# Altium schematic symbol library jclib.SchLib: 247 symbols (part 1 of 2)
Pins are listed as number, name and electrical type; pins without a type are passive.

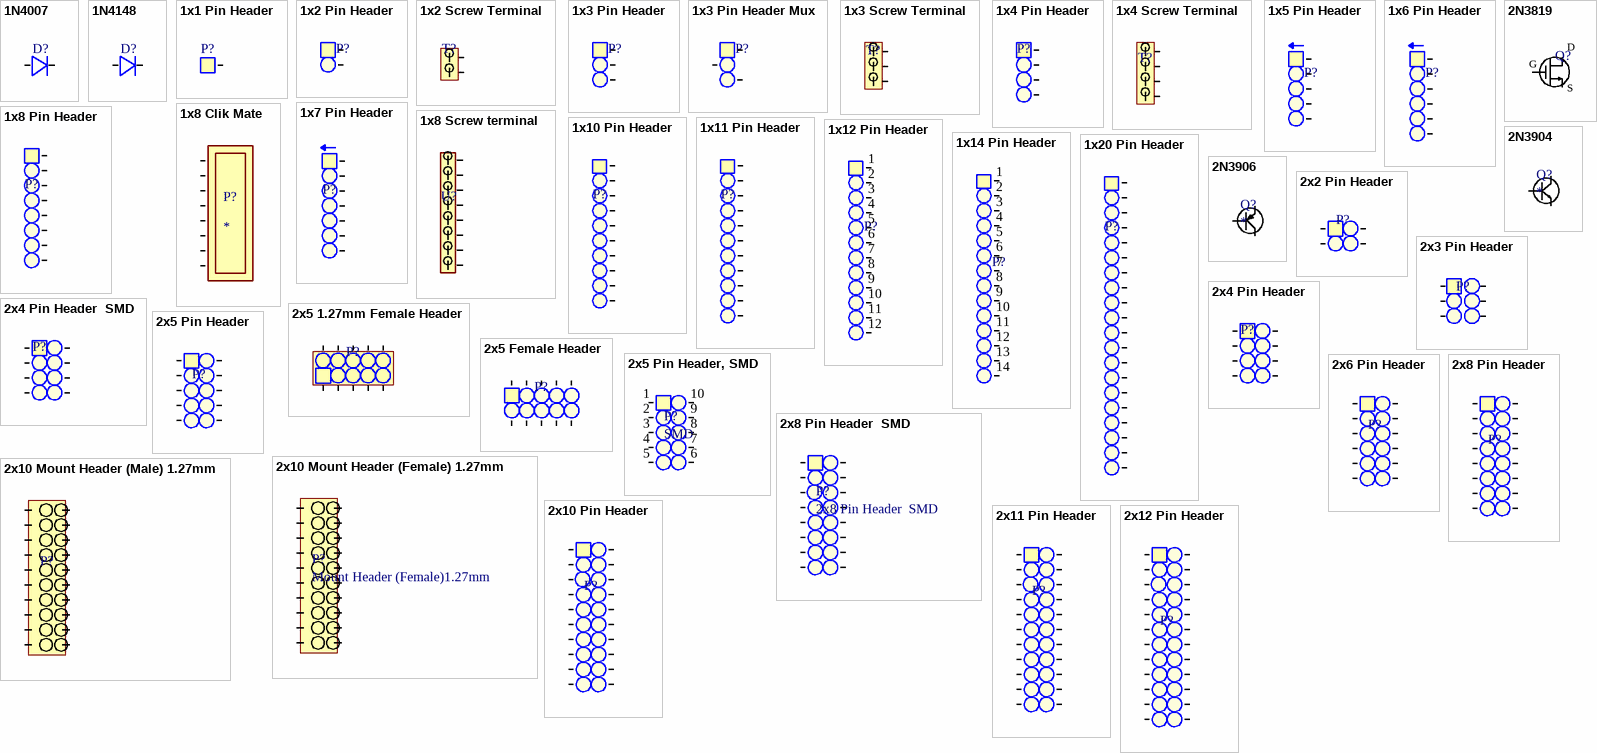
[diagram p0: symbols 1N4007 to 2x12 Pin Header]

## 1N4007
designator D?  (value not drawn)
Axial Lead Standard / Recovery Rectifier; Supplier: *; Order number: *
footprint 1N4007
pins: 1, 2

## 1N4148
designator D?  (value not drawn)
Axial Lead Standard / Recovery Rectifier; Supplier: *; Order number: *
footprint 1N4148
footprint SOD123
pins: 1, 2

## 1x1 Pin Header
designator P?  (value not drawn)
2.54 mm; Value: 1x3 Pin Header
footprint 1x1 (Diameter 2mm, Hole 1mm)
pins: 1

## 1x2 Pin Header
designator P?  (value not drawn)
2.54 mm, TH; Value: 1x2 Pin Header
footprint padtwo_L (Pad Diameter 2 mm, Hole  0.3 mm, Pitch 2.54 mm)
footprint SMD_PAD (1x2 2.54 mm pitch)
footprint 1x2 Bent (Diameter 2mm, Hole 1mm)
pins: 1, 2

## 1x2 Screw Terminal
designator T?, comment Screw Terminal  (value not drawn)
Value: Srew Terminal; Supplier: *; Order number: *
footprint ScrewTerminal
pins: 1, 2

## 1x3 Pin Header
designator P?  (value not drawn)
2.54 mm; Value: 1x3 Pin Header
footprint padThree_L (Pad Diameter 2 mm, Hole  0.3 mm, Pitch 2.54 mm)
footprint 1x3_horizontal (Pad Diameter 2 mm, Hole  0.3 mm, Pitch 2.54 mm)
footprint 1x3_SMD_horizontal_ (SMD Pitch 2.54 mm)
pins: 1, 2, 3

## 1x3 Pin Header Mux
designator P?  (value not drawn)
2.54 mm; Value: 1x3 Pin Header
footprint padThree_L (Pad Diameter 2 mm, Hole  0.3 mm, Pitch 2.54 mm)
footprint 1x3_horizontal (Pad Diameter 2 mm, Hole  0.3 mm, Pitch 2.54 mm)
footprint 1x3_SMD_horizontal_ (SMD Pitch 2.54 mm)
pins: 1, 2, 3

## 1x3 Screw Terminal
designator T?, comment Screw Terminal  (value not drawn)
Value: Screw Terminal; Supplier: *; Order number: *
footprint 1x3 ScrewTerminal
pins: 1, 2, 3

## 1x4 Pin Header
designator P?, comment 4x1 Pin Header  (value not drawn)
2.54 mm; Value: 4x1 Pin Header
footprint padFour_L (Pad Diameter 2 mm, Hole  0.3 mm, Pitch 2.54 mm)
footprint 1x4 Bent Pin Header (1x4 Bent Pin Header SMD, 2.54 mm)
footprint 1x4_pcb_side_connec
pins: 1, 2, 3, 4

## 1x4 Screw Terminal
designator T?, comment Screw Terminal  (value not drawn)
Value: Srew Terminal; Supplier: *; Order number: *
footprint 1x4 ScrewTerminal
pins: 1, 2, 3, 4

## 1x5 Pin Header
designator P?  (value not drawn)
2.54 mm; Value: 1x5 Pin Header
footprint padFive_L (Pad Diameter 2 mm, Hole  0.3 mm, Pitch 2.54 mm)
footprint padFive_L_H (Pad Diameter 2 mm, Hole  0.3 mm, Pitch 2.54 mm)
footprint 1x5_pcb_side_connec
pins: 1, 2, 3, 4, 5

## 1x6 Pin Header
designator P?  (value not drawn)
2.54 mm; Value: 1x3 Pin Header
footprint 1x6 Pin Header SMD (1x6 Pin Header SMD, 2.54 mm)
footprint 1x6 Pin Header (1x6 Pin Header 2.54 mm)
footprint 1x6 Pin Header H (1x6 Pin Header 2.54 mm)
footprint 1x6_pcb_side_connect
pins: 1, 2, 3, 4, 5, 6

## 1x7 Pin Header
designator P?  (value not drawn)
2.54 mm; Value: 1x8 Pin Header
footprint 1x7 Pin Header H
footprint 1x7 Pin Header
pins: 1, 2, 3, 4, 5, 6, 7

## 1x8 Clik Mate
designator P?
CLIK-Mate™ 1.50 mm Tuning Fork Design Wire-to-Board Connectors; Order number: WM14466CT-ND / WM13354-ND; Supplier: Digikey
footprint click_mate_8pos
pins: 1, 2, 3, 4, 5, 6, 7, 8

## 1x8 Pin Header
designator P?  (value not drawn)
2.54 mm; Value: 1x8 Pin Header
footprint 1x8 Pin HEader
pins: 1, 2, 3, 4, 5, 6, 7, 8

## 1x8 Screw terminal
designator U?  (value not drawn)
Order number: A98338-ND; Supplier: Digikey
footprint screw_term_8_pos
pins: 1, 2, 3, 4, 5, 6, 7, 8

## 1x10 Pin Header
designator P?  (value not drawn)
2.54 mm; Value: 1x8 Pin Header
footprint 1x10 PIN HEADER (1x10 Pin header 2.54 mm pitch)
footprint 1x10_pcb_side_connect
pins: 1, 2, 3, 4, 5, 6, 7, 8, 9, 10

## 1x11 Pin Header
designator P?  (value not drawn)
2.54 mm; Value: 1x8 Pin Header
footprint 1x11 Pin Header (2.54 mm)
pins: 1, 2, 3, 4, 5, 6, 7, 8, 9, 10, 11

## 1x12 Pin Header
designator P?  (value not drawn)
1x12 Pin Header, 2.54 mm; Value: 1x12 Pin Header, 2.54 mm
footprint 1x12 Pin Header (1x12 Pin Header 2.54 mm)
pins: 1, 2, 3, 4, 5, 6, 7, 8, 9, 10, 11, 12

## 1x14 Pin Header
designator P?  (value not drawn)
1x14 Pin Header, 2.54 mm; Value: 1x14 Pin Header, 2.54 mm
footprint 1x14Pin Header (1x14 Pin Header 2.54 mm)
footprint 1x14Pin Header U (1x14 Pin Header 2.54 mm)
pins: 1, 2, 3, 4, 5, 6, 7, 8, 9, 10, 11, 12, 13, 14

## 1x20 Pin Header
designator P?  (value not drawn)
Milled header, 2.54 mm; Value: 1x2 Pin Header, milled
footprint 1x20_header_milled (2.54 mm)
pins: 1, 2, 3, 4, 5, 6, 7, 8, 9, 10, 11, 12, 13, 14, 15, 16, 17, 18, 19, 20

## 2N3819
designator Q?  (value not drawn)
Value: N Channel MOSFET; Supplier: *; Order number: *
footprint TO-92 (Triangle, 2.54 mm)
pins: 1 S, 2 G, 3 D

## 2N3904
designator Q?
NPN-transistor; Order number: 1700648; Value: Transistor; Supplier: Farnell
footprint SOT-23
footprint TO-92 (Triangle, 2.54 mm)
pins: 1 E, 2 B, 3 C

## 2N3906
designator Q?
PNP-transistor; Order number: 1574372; Value: Transistor; Supplier: Farnell
footprint TO-92 (Triangle, 2.54 mm)
pins: 1 E, 2 B, 3 C

## 2x2 Pin Header
designator P?  (value not drawn)
Value: 2x2 Pin Header, 2.54mm
footprint 2x2 PH (2.54 mm)
pins: 1, 2, 3, 4

## 2x3 Pin Header
designator P?  (value not drawn)
Value: 2x3 Pin Header, 2.54mm
footprint 2x3 PH (2x3 Pin Header, 2.54 pitch)
pins: 1, 2, 3, 4, 5, 6

## 2x4 Pin Header
designator P?  (value not drawn)
2.54mm,; Value: 2x8 Pin Header, 2.54mm, SMD
footprint 2X4 PH (2x4 Pin Header 2.54 mm)
pins: 1, 2, 3, 4, 5, 6, 7, 8

## 2x4 Pin Header  SMD
designator P?  (value not drawn)
2.54mm, SMD; Value: 2x8 Pin Header, 2.54mm, SMD
footprint 2X4_SMD_PH_2.54 (2x4 Pin Header 2.54 mm)
pins: 1, 2, 3, 4, 5, 6, 7, 8

## 2x5 1.27mm Female Header
designator P?
1.27mm, PH; Value: 2x5 Pin Header, 2.54mm, Th; Digikey: FTSH-105-01-L-DV-K
footprint FTSH-105-01-L-DV-K (1.27 Male Header)
pins: 1, 2, 3, 4, 5, 6, 7, 8, 9, 10

## 2x5 Female Header
designator P?
2.54mm, PH; Value: 2x5 Pin Header, 2.54mm, Th; Digikey: M20-7920542R
footprint M20-7920542R (Female Pin header)
pins: 1, 2, 3, 4, 5, 6, 7, 8, 9, 10

## 2x5 Pin Header
designator P?
2.54mm, PH; Value: 2x5 Pin Header, 2.54mm, Th
footprint 2x5 Pin Header (2.54 mm)
pins: 1, 2, 3, 4, 5, 6, 7, 8, 9, 10

## 2x5 Pin Header, SMD
designator P?, comment SMD
2.54mm, SMD; Value: 2x5 Pin Header, 2.54mm, SMD; Farnell: 2356242
footprint 2X5_SMD_PH_1.27 (2x5 Pin Header 2.54 mm)
footprint 2X5_SMD_PH_2.54 (2x5 Pin Header 2.54 mm)
pins: 1, 2, 3, 4, 5, 6, 7, 8, 9, 10

## 2x6 Pin Header
designator P?  (value not drawn)
2.54 mm; Value: 1x8 Pin Header
footprint 2x6 Pin Header (2x6 Pin Header 2.54 mm)
pins: 1, 2, 3, 4, 5, 6, 7, 8, 9, 10, 11, 12

## 2x8 Pin Header
designator P?  (value not drawn)
2.54 mm; Value: 1x8 Pin Header
footprint 2x8 Pin Header
pins: 1, 2, 3, 4, 5, 6, 7, 8, 9, 10, 11, 12, 13, 14, 15, 16

## 2x8 Pin Header  SMD
designator P?
2.54mm, SMD; Value: 2x8 Pin Header, 2.54mm, SMD; Farnell: 2356242
footprint 2X8_SMD_PH_2.54 (2x8Pin Header 2.54 mm)
pins: 1, 2, 3, 4, 5, 6, 7, 8, 9, 10, 11, 12, 13, 14, 15, 16

## 2x10 Mount Header (Female) 1.27mm
designator P?, comment Mount Header (Female)1.27mm
2x10 Mount Header (Female); Value: 2x10 Mount Header, 1.27mm; Farnell: 1099539
footprint M50-4901045
pins: 1, 2, 3, 4, 5, 6, 7, 8, 9, 10, 11, 12, 13, 14, 15, 16, 17, 18, 19, 20

## 2x10 Mount Header (Male) 1.27mm
designator P?, comment Mount Header (Male) 1.27mm  (value not drawn)
2x10 Mount Header (Male); Value: 2x10 Mount Header, 1.27mm; Farnell: 1099531
footprint M50-4301045 (1.27MM SMD AU 20POS)
pins: 1, 2, 3, 4, 5, 6, 7, 8, 9, 10, 11, 12, 13, 14, 15, 16, 17, 18, 19, 20

## 2x10 Pin Header
designator P?  (value not drawn)
2.54 mm; Value: 1x10 Pin Header
footprint 2x10 Pin Header (2.54 mm)
footprint 2x10 Pin Header Bottom connect (2.54 mm)
footprint 2x10 Pin Header Connected (2.54 mm)
pins: 1, 2, 3, 4, 5, 6, 7, 8, 9, 10, 11, 12, 13, 14, 15, 16, 17, 18, 19, 20

## 2x11 Pin Header
designator P?  (value not drawn)
2.54 mm; Value: 1x11 Pin Header
footprint 2x11 Pin Header (2.54 mm)
pins: 1, 2, 3, 4, 5, 6, 7, 8, 9, 10, 11, 12, 13, 14, 15, 16, 17, 18, 19, 20, 21, 22

## 2x12 Pin Header
designator P?  (value not drawn)
2.54 mm; Value: 1x11 Pin Header
footprint 2x12 Pin Header Bottom Pad (2.54 mm)
footprint 2x12 Pin Header Bottom Pad connected (2.54 mm)
footprint 2x12 Pin Header Connected (2.54 mm)
pins: 1, 2, 3, 4, 5, 6, 7, 8, 9, 10, 11, 12, 13, 14, 15, 16, 17, 18, 19, 20, 21, 22, 23, 24

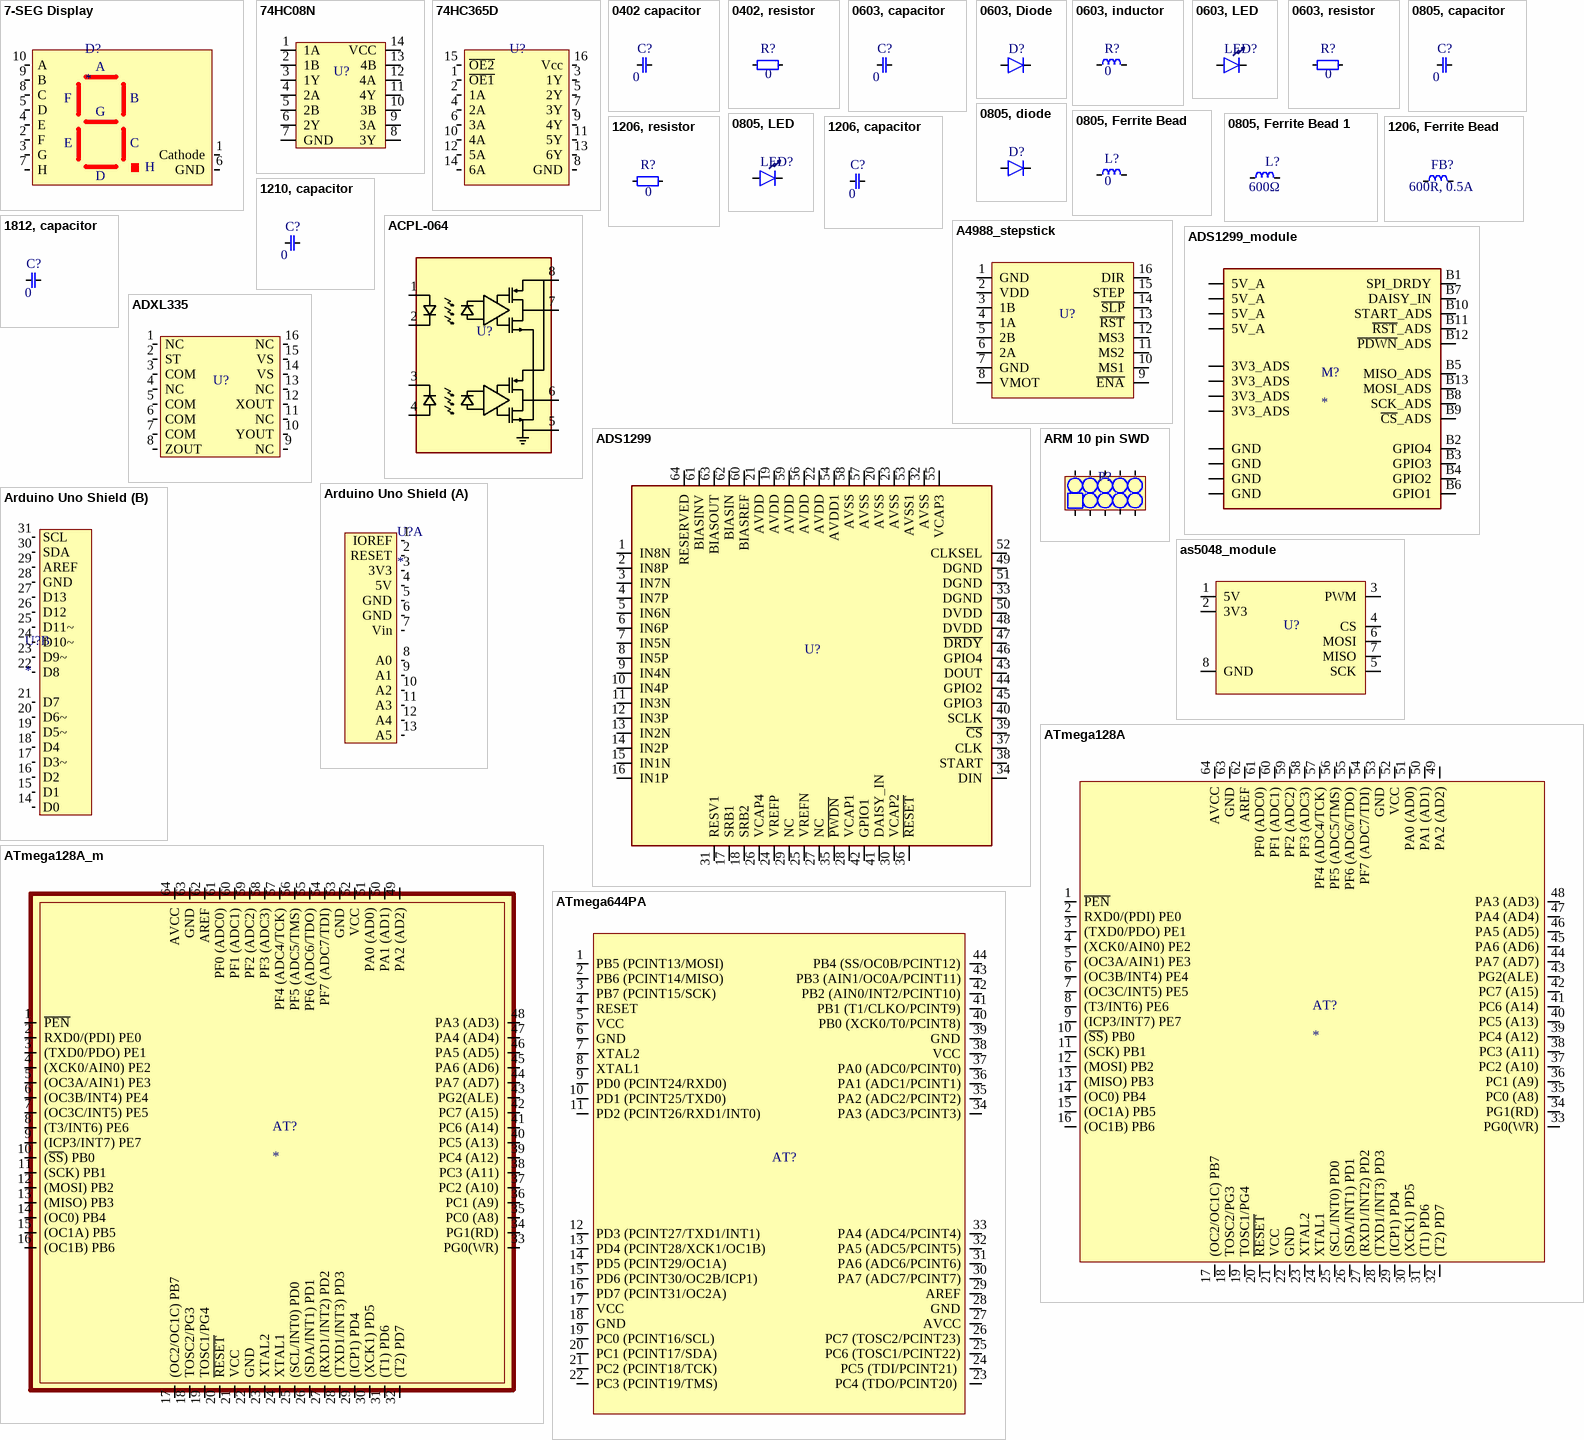
[diagram p1: symbols 7-SEG Display to ATmega644PA]

## 7-SEG Display
designator D?
7-SEG Display, 2.54 mm; ELFA: 175-50-700; Value: 7-SEG Display
footprint 7SEG (2.54mm)
pins: 1 Cathode, 2 F, 3 G, 4 E, 5 D, 6 GND, 7 H, 8 C, 9 B, 10 A

## 74HC08N
designator U?  (value not drawn)
Quad 2-input AND gate
footprint DIP14
pins: 1 1A, 2 1B, 3 1Y, 4 2A, 5 2B, 6 2Y, 7 GND, 8 3Y, 9 3A, 10 3B, 11 4Y, 12 4A, 13 4B, 14 VCC

## 74HC365D
designator U?  (value not drawn)
74HC365D; Value: Hex Buffer; ELFA: 173-90-487
footprint SOIC16
pins: 1 ~{OE1}, 2 1A, 3 1Y, 4 2A, 5 2Y, 6 3A, 7 3Y, 8 GND, 9 4Y, 10 4A, 11 5Y, 12 5A, 13 6Y, 14 6A, 15 ~{OE2}, 16 Vcc

## 0402 capacitor
designator C?  value 0  (hidden comment: *)
footprint 0402 CAP
pins: 1, 2

## 0402, resistor
designator R?  value 0
footprint 0402 res
pins: 1, 2

## 0603, capacitor
designator C?  value 0  (hidden comment: *)
Order number: *
footprint 0603 cap
pins: 0, 1

## 0603, Diode
designator D?  (value not drawn)
footprint 0603 Diode
pins: 0 Cathode, 1

## 0603, inductor
designator R?  value 0
footprint 0603
pins: 0, 1

## 0603, LED
designator LED?
footprint 0603 LED
pins: 0 Cathode, 1

## 0603, resistor
designator R?  value 0
footprint 0603
pins: 0, 1

## 0805, capacitor
designator C?  value 0  (hidden comment: *)
footprint 0805, cap
pins: 0, 1

## 0805, diode
designator D?  (value not drawn)
footprint 0805 diode
pins: 0 Cathode, 1

## 0805, Ferrite Bead
designator L?  value 0  (hidden comment: *)
footprint 0805
pins: 0, 1

## 0805, Ferrite Bead 1
designator L?  value 600Ω  (hidden comment: *)
600 ohm, 500 mA, 0.2 ohm DC
footprint 0805
pins: 0, 1

## 0805, LED
designator LED?  (value not drawn)
Value: 0805 LED
footprint 0805_led
pins: 0 Cathode, 1

## 1206, capacitor
designator C?  value 0  (hidden comment: *)
footprint 1206, capasitor (Generic 1206)
pins: 0, 1

## 1206, Ferrite Bead
designator FB?  value 600R, 0.5A  (hidden comment: *)
Ferrite bead, 600 ohm, 1206, 500 mA, 0.3 ohm, ± 25%; Farnell: 1800370
footprint 1206 (Generic 1206)
pins: 0, 1

## 1206, resistor
designator R?  value 0  (hidden comment: *)
Resistor
footprint 1206 (Generic 1206)
pins: 0, 1

## 1210, capacitor
designator C?  value 0  (hidden comment: *)
Order number: 587-1965-1-ND; Supplier: Digikey
footprint 1210, cap
pins: 0, 1

## 1812, capacitor
designator C?  value 0  (hidden comment: *)
footprint 1812, cap
pins: 0, 1

## A4988_stepstick
designator U?  (value not drawn)
footprint A4988_stepstick
pins: 1 GND, 2 VDD, 3 1B, 4 1A, 5 2B, 6 2A, 7 GND, 8 VMOT, 9 ~{ENA}, 10 MS1, 11 MS2, 12 MS3, 13 ~{RST}, 14 ~{SLP}, 15 STEP, 16 DIR

## ACPL-064
designator U?  (value not drawn)
Optocouplers, High-speed low power; Value: Optocoupler; Order number: *; Suplier: *
footprint SOIC8 (SOIC, 8-Leads, Body 4,90x3,90mm, Pitch 1,27mm, IPC Medium Density)
pins: 1, 2, 3, 4, 5, 6, 7, 8

## ADS1299
designator U?  (value not drawn)
24-Bit, Analog-to-Digital Converter for EEG and / Biopotential Measurements
footprint TQFP64_05MM_P (TSQFP, 64-Leads, Body 10,20x10,20mm, Pitch 0,50mm, IPC Medium Density)
pins: 1 IN8N, 2 IN8P, 3 IN7N, 4 IN7P, 5 IN6N, 6 IN6P, 7 IN5N, 8 IN5P, 9 IN4N, 10 IN4P, 11 IN3N, 12 IN3P, 13 IN2N, 14 IN2P, 15 IN1N, 16 IN1P, 17 SRB1, 18 SRB2, 19 AVDD, 20 AVSS, 21 AVDD, 22 AVDD, 23 AVSS, 24 VREFP, 25 VREFN, 26 VCAP4, 27 NC, 28 VCAP1, 29 NC, 30 VCAP2, 31 RESV1, 32 AVSS, 33 DGND, 34 DIN, 35 ~{PWDN}, 36 ~{RESET}, 37 CLK, 38 START, 39 ~{CS}, 40 SCLK, 41 DAISY_IN, 42 GPIO1, 43 DOUT, 44 GPIO2, 45 GPIO3, 46 GPIO4, 47 ~{DRDY}, 48 DVDD, 49 DGND, 50 DVDD, 51 DGND, 52 CLKSEL, 53 AVSS1, 54 AVDD1, 55 VCAP3, 56 AVDD, 57 AVSS, 58 AVSS, 59 AVDD, 60 BIASREF, 61 BIASINV, 62 BIASIN, 63 BIASOUT, 64 RESERVED

## ADS1299_module
designator M?
footprint ads1299_module
pins: A1 3V3_ADS, A2 3V3_ADS, A5 GND, A6 GND, A9 5V_A, A10 5V_A, A11 5V_A, A12 5V_A, A15 GND, A16 GND, A19 3V3_ADS, A20 3V3_ADS, B1 SPI_DRDY, B2 GPIO4, B3 GPIO3, B4 GPIO2, B5 MISO_ADS, B6 GPIO1, B7 DAISY_IN, B8 SCK_ADS, B9 ~{CS}_ADS, B10 START_ADS, B11 ~{RST}_ADS, B12 ~{PDWN}_ADS, B13 MOSI_ADS

## ADXL335
designator U?  (value not drawn)
Accelerometer, 3-Axis ±3 g; Value: Accelerometer
footprint QFN16 - 3x3mm (QFN, 16-Leads, Body 3,00x3,00mm, Pitch 0,50mm)
footprint qfn 4x4mm (QFN, 16-Leads, Body 4,00x4,00mm, Pitch 0,65mm, Thermal Pad 2,40x2,40mm, IPC Medium Density)
pins: 1 NC, 2 ST, 3 COM, 4 NC, 5 COM, 6 COM, 7 COM, 8 ZOUT, 9 NC, 10 YOUT, 11 NC, 12 XOUT, 13 NC, 14 VS, 15 VS, 16 NC

## Arduino Uno Shield
designator U?
footprint Arduino Uno Sheild
part A pins: 1 IOREF, 2 RESET, 3 3V3, 4 5V, 5 GND, 6 GND, 7 Vin, 8 A0, 9 A1, 10 A2, 11 A3, 12 A4, 13 A5
part B pins: 14 D0, 15 D1, 16 D2, 17 D3~, 18 D4, 19 D5~, 20 D6~, 21 D7, 22 D8, 23 D9~, 24 D10~, 25 D11~, 26 D12, 27 D13, 28 GND, 29 AREF, 30 SDA, 31 SCL

## ARM 10 pin SWD
designator P?
1.27mm, PH; Value: 2x5 Pin Header, 2.54mm, Th; Digikey: FTSH-105-01-L-DV-K
footprint FTSH-105-01-L-DV-K even odd (1.27 Male Header)
pins: 1, 2, 3, 4, 5, 6, 7, 8, 9, 10

## as5048_module
designator U?  (value not drawn)
AS5048 Rotary encoder
footprint AS5048_MODULE
pins: 1 5V, 2 3V3, 3 PWM, 4 CS, 5 SCK, 6 MOSI, 7 MISO, 8 GND

## ATmega128A
designator AT?
ATmega128A; Farnell: 1773397; Value: ATmega128A
footprint TQFP64 (14x14mm)
pins: 1 ~{PEN}, 2 RXD0/(PDI) PE0, 3 (TXD0/PDO) PE1, 4 (XCK0/AIN0) PE2, 5 (OC3A/AIN1) PE3, 6 (OC3B/INT4) PE4, 7 (OC3C/INT5) PE5, 8 (T3/INT6) PE6, 9 (ICP3/INT7) PE7, 10 (~{SS}) PB0, 11 (SCK) PB1, 12 (MOSI) PB2, 13 (MISO) PB3, 14 (OC0) PB4, 15 (OC1A) PB5, 16 (OC1B) PB6, 17 (OC2/OC1C) PB7, 18 TOSC2/PG3, 19 TOSC1/PG4, 20 ~{RESET}, 21 VCC, 22 GND, 23 XTAL2, 24 XTAL1, 25 (SCL/INT0) PD0, 26 (SDA/INT1) PD1, 27 (RXD1/INT2) PD2, 28 (TXD1/INT3) PD3, 29 (ICP1) PD4, 30 (XCK1) PD5, 31 (T1) PD6, 32 (T2) PD7, 33 PG0(WR), 34 PG1(RD), 35 PC0 (A8), 36 PC1 (A9), 37 PC2 (A10), 38 PC3 (A11), 39 PC4 (A12), 40 PC5 (A13), 41 PC6 (A14), 42 PC7 (A15), 43 PG2(ALE), 44 PA7 (AD7), 45 PA6 (AD6), 46 PA5 (AD5), 47 PA4 (AD4), 48 PA3 (AD3), 49 PA2 (AD2), 50 PA1 (AD1), 51 PA0 (AD0), 52 VCC, 53 GND, 54 PF7 (ADC7/TDI), 55 PF6 (ADC6/TDO), 56 PF5 (ADC5/TMS), 57 PF4 (ADC4/TCK), 58 PF3 (ADC3), 59 PF2 (ADC2), 60 PF1 (ADC1), 61 PF0 (ADC0), 62 AREF, 63 GND, 64 AVCC

## ATmega128A_m
designator AT?
ATmega128A Module; Farnell: 1773397; Value: ATmega128A
footprint ATmega128_m
pins: 1 ~{PEN}, 2 RXD0/(PDI) PE0, 3 (TXD0/PDO) PE1, 4 (XCK0/AIN0) PE2, 5 (OC3A/AIN1) PE3, 6 (OC3B/INT4) PE4, 7 (OC3C/INT5) PE5, 8 (T3/INT6) PE6, 9 (ICP3/INT7) PE7, 10 (~{SS}) PB0, 11 (SCK) PB1, 12 (MOSI) PB2, 13 (MISO) PB3, 14 (OC0) PB4, 15 (OC1A) PB5, 16 (OC1B) PB6, 17 (OC2/OC1C) PB7, 18 TOSC2/PG3, 19 TOSC1/PG4, 20 ~{RESET}, 21 VCC, 22 GND, 23 XTAL2, 24 XTAL1, 25 (SCL/INT0) PD0, 26 (SDA/INT1) PD1, 27 (RXD1/INT2) PD2, 28 (TXD1/INT3) PD3, 29 (ICP1) PD4, 30 (XCK1) PD5, 31 (T1) PD6, 32 (T2) PD7, 33 PG0(WR), 34 PG1(RD), 35 PC0 (A8), 36 PC1 (A9), 37 PC2 (A10), 38 PC3 (A11), 39 PC4 (A12), 40 PC5 (A13), 41 PC6 (A14), 42 PC7 (A15), 43 PG2(ALE), 44 PA7 (AD7), 45 PA6 (AD6), 46 PA5 (AD5), 47 PA4 (AD4), 48 PA3 (AD3), 49 PA2 (AD2), 50 PA1 (AD1), 51 PA0 (AD0), 52 VCC, 53 GND, 54 PF7 (ADC7/TDI), 55 PF6 (ADC6/TDO), 56 PF5 (ADC5/TMS), 57 PF4 (ADC4/TCK), 58 PF3 (ADC3), 59 PF2 (ADC2), 60 PF1 (ADC1), 61 PF0 (ADC0), 62 AREF, 63 GND, 64 AVCC

## ATmega644PA
designator AT?
ATmega644PA - Small but big and PicoPower; Farnell: 2484915; Value: ATmega644PA
footprint TQFP-44 (QFP, 44-Leads, Body 10,00x10,00mm, Pitch 0,80mm, IPC Medium Density)
pins: 1 PB5 (PCINT13/MOSI) , 2 PB6 (PCINT14/MISO) , 3 PB7 (PCINT15/SCK) , 4 RESET, 5 VCC, 6 GND, 7 XTAL2, 8 XTAL1, 9 PD0 (PCINT24/RXD0) , 10 PD1 (PCINT25/TXD0) , 11 PD2 (PCINT26/RXD1/INT0) , 12 PD3 (PCINT27/TXD1/INT1) , 13 PD4 (PCINT28/XCK1/OC1B) , 14 PD5 (PCINT29/OC1A) , 15 PD6 (PCINT30/OC2B/ICP1) , 16 PD7 (PCINT31/OC2A) , 17 VCC, 18 GND, 19 PC0 (PCINT16/SCL) , 20 PC1 (PCINT17/SDA) , 21 PC2 (PCINT18/TCK) , 22 PC3 (PCINT19/TMS) , 23 PC4 (TDO/PCINT20) , 24 PC5 (TDI/PCINT21) , 25 PC6 (TOSC1/PCINT22), 26 PC7 (TOSC2/PCINT23), 27 AVCC, 28 GND, 29 AREF, 30 PA7 (ADC7/PCINT7), 31 PA6 (ADC6/PCINT6), 32 PA5 (ADC5/PCINT5), 33 PA4 (ADC4/PCINT4), 34 PA3 (ADC3/PCINT3), 35 PA2 (ADC2/PCINT2), 36 PA1 (ADC1/PCINT1), 37 PA0 (ADC0/PCINT0), 38 VCC, 39 GND, 40 PB0 (XCK0/T0/PCINT8), 41 PB1 (T1/CLKO/PCINT9), 42 PB2 (AIN0/INT2/PCINT10), 43 PB3 (AIN1/OC0A/PCINT11), 44 PB4 (SS/OC0B/PCINT12)

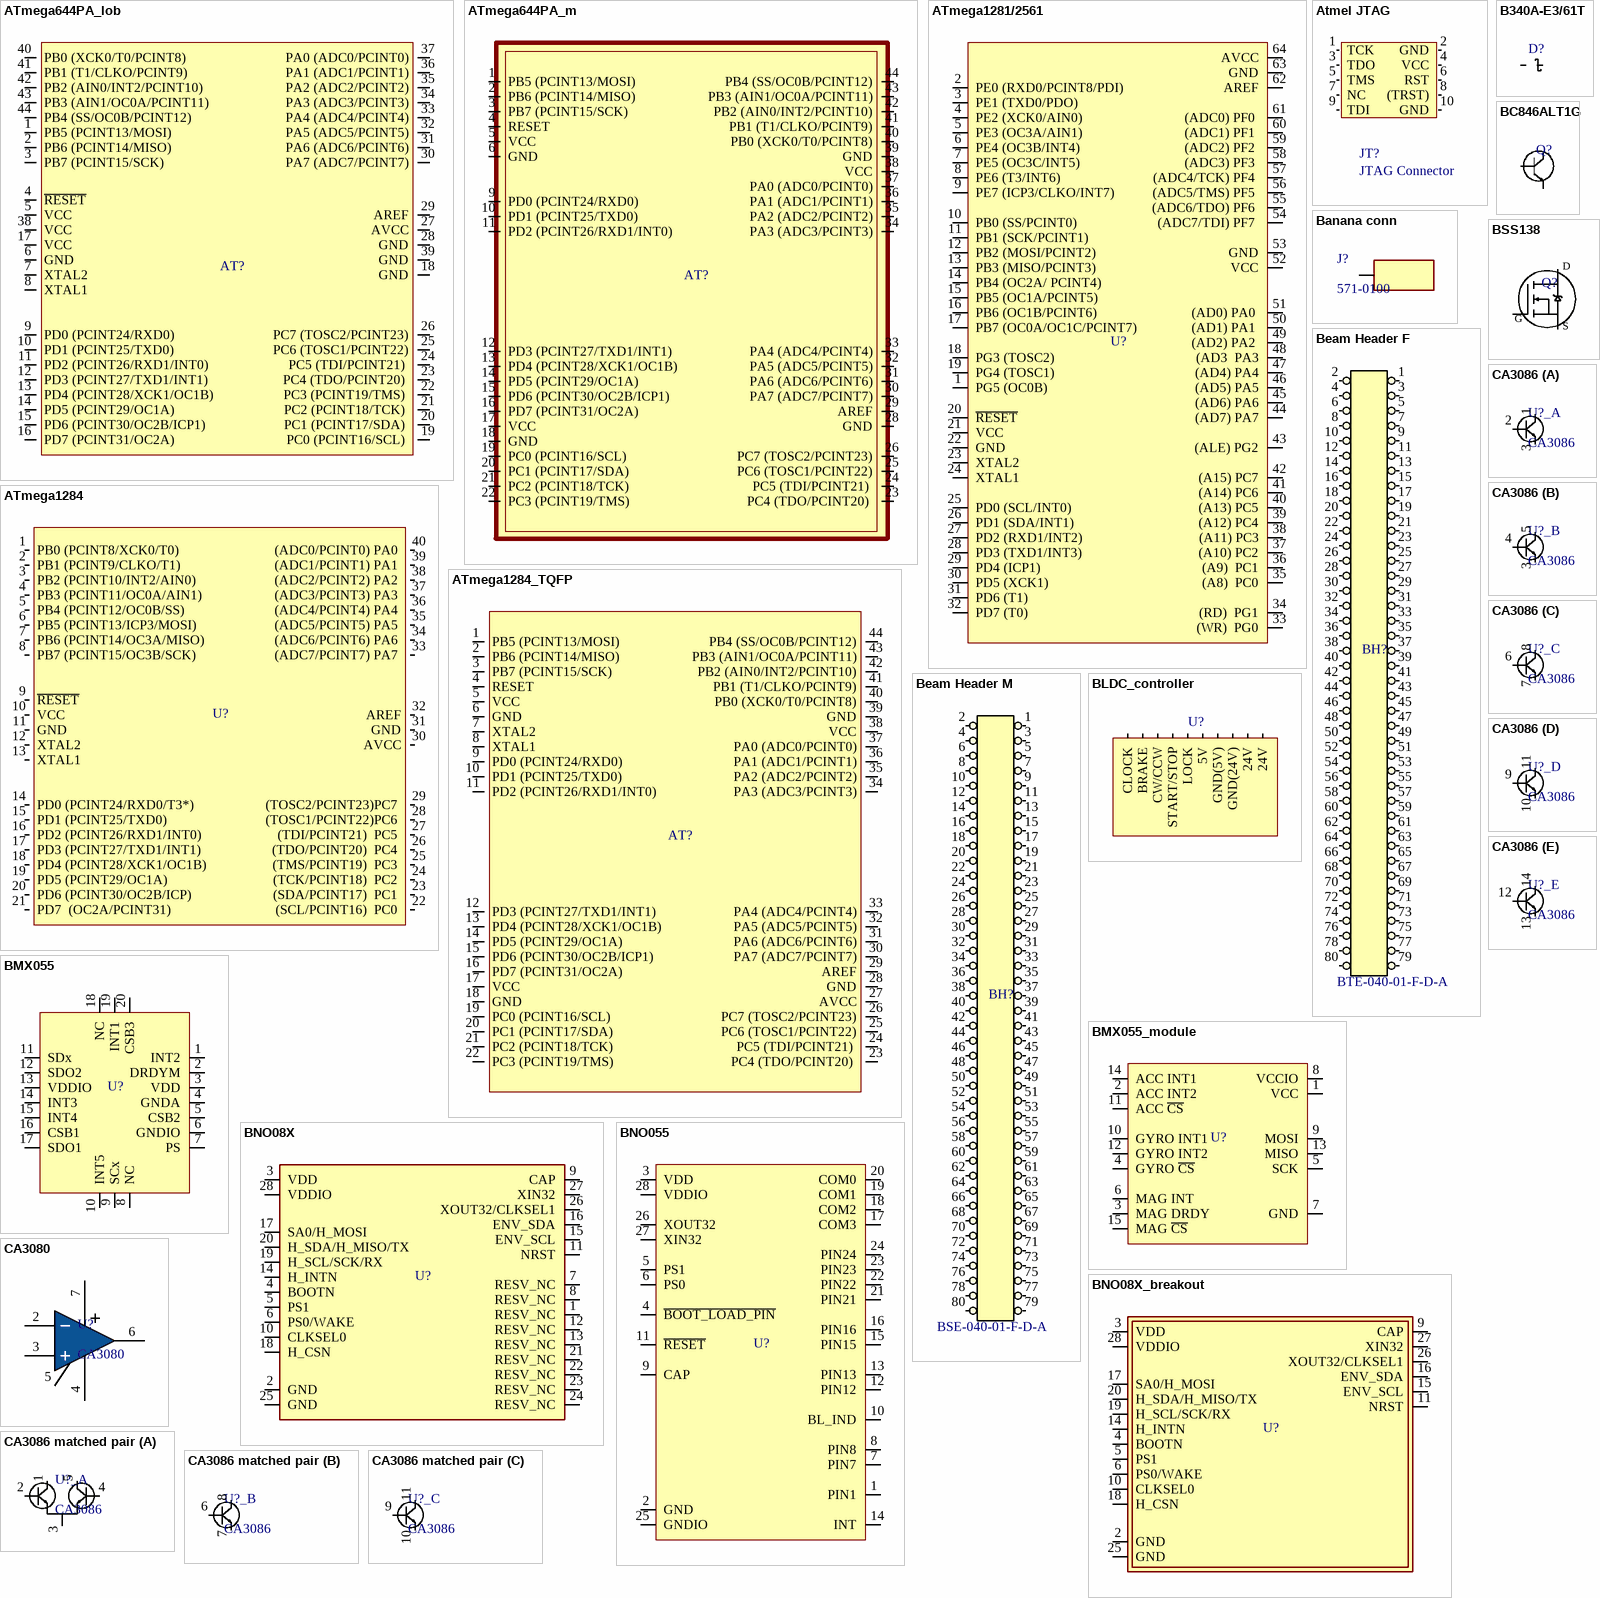
[diagram p2: symbols ATmega644PA_lob to CA3086 matched pair]

## ATmega644PA_lob
designator AT?
ATmega644PA - Small but big and PicoPower; Farnell: 2484915; Value: ATmega644PA
footprint TQFP-44 (QFP, 44-Leads, Body 10,00x10,00mm, Pitch 0,80mm, IPC Medium Density)
pins: 1 PB5 (PCINT13/MOSI) , 2 PB6 (PCINT14/MISO) , 3 PB7 (PCINT15/SCK) , 4 ~{RESET}, 5 VCC, 6 GND, 7 XTAL2, 8 XTAL1, 9 PD0 (PCINT24/RXD0) , 10 PD1 (PCINT25/TXD0) , 11 PD2 (PCINT26/RXD1/INT0) , 12 PD3 (PCINT27/TXD1/INT1) , 13 PD4 (PCINT28/XCK1/OC1B) , 14 PD5 (PCINT29/OC1A) , 15 PD6 (PCINT30/OC2B/ICP1) , 16 PD7 (PCINT31/OC2A) , 17 VCC, 18 GND, 19 PC0 (PCINT16/SCL) , 20 PC1 (PCINT17/SDA) , 21 PC2 (PCINT18/TCK) , 22 PC3 (PCINT19/TMS) , 23 PC4 (TDO/PCINT20) , 24 PC5 (TDI/PCINT21) , 25 PC6 (TOSC1/PCINT22), 26 PC7 (TOSC2/PCINT23), 27 AVCC, 28 GND, 29 AREF, 30 PA7 (ADC7/PCINT7), 31 PA6 (ADC6/PCINT6), 32 PA5 (ADC5/PCINT5), 33 PA4 (ADC4/PCINT4), 34 PA3 (ADC3/PCINT3), 35 PA2 (ADC2/PCINT2), 36 PA1 (ADC1/PCINT1), 37 PA0 (ADC0/PCINT0), 38 VCC, 39 GND, 40 PB0 (XCK0/T0/PCINT8), 41 PB1 (T1/CLKO/PCINT9), 42 PB2 (AIN0/INT2/PCINT10), 43 PB3 (AIN1/OC0A/PCINT11), 44 PB4 (SS/OC0B/PCINT12)

## ATmega644PA_m
designator AT?
ATmega644PA - Breakout; Farnell: 1099539 x 4; Value: ATmega644PA
footprint CityHGB_AVR_m
pins: 1 PB5 (PCINT13/MOSI) , 2 PB6 (PCINT14/MISO) , 3 PB7 (PCINT15/SCK) , 4 RESET, 5 VCC, 6 GND, 9 PD0 (PCINT24/RXD0) , 10 PD1 (PCINT25/TXD0) , 11 PD2 (PCINT26/RXD1/INT0) , 12 PD3 (PCINT27/TXD1/INT1) , 13 PD4 (PCINT28/XCK1/OC1B) , 14 PD5 (PCINT29/OC1A) , 15 PD6 (PCINT30/OC2B/ICP1) , 16 PD7 (PCINT31/OC2A) , 17 VCC, 18 GND, 19 PC0 (PCINT16/SCL) , 20 PC1 (PCINT17/SDA) , 21 PC2 (PCINT18/TCK) , 22 PC3 (PCINT19/TMS) , 23 PC4 (TDO/PCINT20) , 24 PC5 (TDI/PCINT21) , 25 PC6 (TOSC1/PCINT22), 26 PC7 (TOSC2/PCINT23), 28 GND, 29 AREF, 30 PA7 (ADC7/PCINT7), 31 PA6 (ADC6/PCINT6), 32 PA5 (ADC5/PCINT5), 33 PA4 (ADC4/PCINT4), 34 PA3 (ADC3/PCINT3), 35 PA2 (ADC2/PCINT2), 36 PA1 (ADC1/PCINT1), 37 PA0 (ADC0/PCINT0), 38 VCC, 39 GND, 40 PB0 (XCK0/T0/PCINT8), 41 PB1 (T1/CLKO/PCINT9), 42 PB2 (AIN0/INT2/PCINT10), 43 PB3 (AIN1/OC0A/PCINT11), 44 PB4 (SS/OC0B/PCINT12)

## ATmega1281/2561
designator U?  (value not drawn)
8-bit Atmel Microcontroller with 32/64KB In-System Programmable Flash
footprint TQFP64_AVR (tQFP, 64-Leads, Body 16,00x16,00mm, Pitch 0,80mm, IPC Medium Density)
pins: 1 PG5 (OC0B), 2 PE0 (RXD0/PCINT8/PDI), 3 PE1 (TXD0/PDO), 4 PE2 (XCK0/AIN0), 5 PE3 (OC3A/AIN1), 6 PE4 (OC3B/INT4), 7 PE5 (OC3C/INT5), 8 PE6 (T3/INT6), 9 PE7 (ICP3/CLKO/INT7), 10 PB0 (SS/PCINT0), 11 PB1 (SCK/PCINT1), 12 PB2 (MOSI/PCINT2), 13 PB3 (MISO/PCINT3), 14 PB4 (OC2A/ PCINT4), 15 PB5 (OC1A/PCINT5), 16 PB6 (OC1B/PCINT6), 17 PB7 (OC0A/OC1C/PCINT7), 18 PG3 (TOSC2), 19 PG4 (TOSC1), 20 ~{RESET}, 21 VCC, 22 GND, 23 XTAL2, 24 XTAL1, 25 PD0 (SCL/INT0), 26 PD1 (SDA/INT1), 27 PD2 (RXD1/INT2), 28 PD3 (TXD1/INT3), 29 PD4 (ICP1), 30 PD5 (XCK1), 31 PD6 (T1), 32 PD7 (T0), 33 (WR)  PG0, 34 (RD)  PG1, 35 (A8)  PC0, 36 (A9)  PC1, 37 (A10) PC2, 38 (A11) PC3, 39 (A12) PC4, 40 (A13) PC5, 41 (A14) PC6, 42 (A15) PC7, 43 (ALE) PG2, 44 (AD7) PA7, 45 (AD6) PA6, 46 (AD5) PA5, 47 (AD4) PA4, 48 (AD3  PA3, 49 (AD2) PA2 , 50 (AD1) PA1 , 51 (AD0) PA0 , 52 VCC, 53 GND, 54 (ADC7/TDI) PF7 , 55 (ADC6/TDO) PF6 , 56 (ADC5/TMS) PF5 , 57 (ADC4/TCK) PF4 , 58 (ADC3) PF3 , 59 (ADC2) PF2 , 60 (ADC1) PF1 , 61 (ADC0) PF0 , 62 AREF, 63 GND, 64 AVCC

## ATmega1284
designator U?  (value not drawn)
8-bit Atmel Microcontroller with 128K Bytes  In-System Programmable Flash; Value: ATmega1284
footprint DIP40 (Pitch - 2.54 mm x 15.24mm)
pins: 1 PB0 (PCINT8/XCK0/T0) , 2 PB1 (PCINT9/CLKO/T1) , 3 PB2 (PCINT10/INT2/AIN0) , 4 PB3 (PCINT11/OC0A/AIN1) , 5 PB4 (PCINT12/OC0B/SS) , 6 PB5 (PCINT13/ICP3/MOSI) , 7 PB6 (PCINT14/OC3A/MISO) , 8 PB7 (PCINT15/OC3B/SCK) , 9 ~{RESET}, 10 VCC, 11 GND, 12 XTAL2, 13 XTAL1, 14 PD0 (PCINT24/RXD0/T3*) , 15 PD1 (PCINT25/TXD0) , 16 PD2 (PCINT26/RXD1/INT0) , 17 PD3 (PCINT27/TXD1/INT1) , 18 PD4 (PCINT28/XCK1/OC1B) , 19 PD5 (PCINT29/OC1A) , 20 PD6 (PCINT30/OC2B/ICP) , 21 PD7  (OC2A/PCINT31) , 22 (SCL/PCINT16)  PC0 , 23 (SDA/PCINT17)  PC1 , 24 (TCK/PCINT18)  PC2 , 25 (TMS/PCINT19)  PC3 , 26 (TDO/PCINT20)  PC4 , 27 (TDI/PCINT21)  PC5 , 28 (TOSC1/PCINT22)PC6 , 29 (TOSC2/PCINT23)PC7 , 30 AVCC, 31 GND, 32 AREF, 33 (ADC7/PCINT7) PA7 , 34 (ADC6/PCINT6) PA6 , 35 (ADC5/PCINT5) PA5 , 36 (ADC4/PCINT4) PA4 , 37 (ADC3/PCINT3) PA3 , 38 (ADC2/PCINT2) PA2 , 39 (ADC1/PCINT1) PA1 , 40 (ADC0/PCINT0) PA0 

## ATmega1284_TQFP
designator AT?
ATmega1284 - TQFP44; Value: ATmega644PA; Farnell: 2484915
footprint TQFP-44 (QFP, 44-Leads, Body 10,00x10,00mm, Pitch 0,80mm, IPC Medium Density)
pins: 1 PB5 (PCINT13/MOSI) , 2 PB6 (PCINT14/MISO) , 3 PB7 (PCINT15/SCK) , 4 RESET, 5 VCC, 6 GND, 7 XTAL2, 8 XTAL1, 9 PD0 (PCINT24/RXD0) , 10 PD1 (PCINT25/TXD0) , 11 PD2 (PCINT26/RXD1/INT0) , 12 PD3 (PCINT27/TXD1/INT1) , 13 PD4 (PCINT28/XCK1/OC1B) , 14 PD5 (PCINT29/OC1A) , 15 PD6 (PCINT30/OC2B/ICP1) , 16 PD7 (PCINT31/OC2A) , 17 VCC, 18 GND, 19 PC0 (PCINT16/SCL) , 20 PC1 (PCINT17/SDA) , 21 PC2 (PCINT18/TCK) , 22 PC3 (PCINT19/TMS) , 23 PC4 (TDO/PCINT20) , 24 PC5 (TDI/PCINT21) , 25 PC6 (TOSC1/PCINT22), 26 PC7 (TOSC2/PCINT23), 27 AVCC, 28 GND, 29 AREF, 30 PA7 (ADC7/PCINT7), 31 PA6 (ADC6/PCINT6), 32 PA5 (ADC5/PCINT5), 33 PA4 (ADC4/PCINT4), 34 PA3 (ADC3/PCINT3), 35 PA2 (ADC2/PCINT2), 36 PA1 (ADC1/PCINT1), 37 PA0 (ADC0/PCINT0), 38 VCC, 39 GND, 40 PB0 (XCK0/T0/PCINT8), 41 PB1 (T1/CLKO/PCINT9), 42 PB2 (AIN0/INT2/PCINT10), 43 PB3 (AIN1/OC0A/PCINT11), 44 PB4 (SS/OC0B/PCINT12)

## Atmel JTAG
designator JT?, comment JTAG Connector
Atmel JTAG Connector
footprint Atmel_JTAG
pins: 1 TCK, 2 GND, 3 TDO, 4 VCC, 5 TMS, 6 RST, 7 NC, 8 (TRST), 9 TDI, 10 GND

## B340A-E3/61T
designator D?  (value not drawn)
SchottkydiodE, 40 V, 3 A; Value: Schottky Diode; Farnell: 2335183
footprint DO-214AC
pins: 1, 2

## Banana conn
designator J?, comment 571-0100
Banana Connector 571-0100; Manufacturer_Name: Deltron; Datasheet Link: https://www.dem-uk.com/deltron-components/Data/Product_Downloads/deltron-571-0100-4mm-90deg-single-socket-data.pdf; Height: 12.4mm; Manufacturer_Part_Number: 571-0100; Mouser Part Number: 164-6218; Mouser Price/Stock: https://www.mouser.com/Search/Refine.aspx?Keyword=164-6218
footprint Banana Conn VCC (571-0100)
footprint Banana Conn GND (571-0100)
pins: 1

## BC846ALT1G
designator Q?  (value not drawn)
NPN-transistor; Value: NPN Transistor; Farnell: *
footprint SOT-23
pins: 1 B, 2 E, 3 C

## Beam Header F
designator BH?  value BTE-040-01-F-D-A  (hidden comment: *)
Farnell: 2581980
footprint BTE-040
pins: 1, 2, 3, 4, 5, 6, 7, 8, 9, 10, 11, 12, 13, 14, 15, 16, 17, 18, 19, 20, 21, 22, 23, 24, 25, 26, 27, 28, 29, 30, 31, 32, 33, 34, 35, 36, 37, 38, 39, 40, 41, 42, 43, 44, 45, 46, 47, 48, 49, 50, 51, 52, 53, 54, 55, 56, 57, 58, 59, 60, 61, 62, 63, 64, 65, 66, 67, 68, 69, 70, 71, 72, 73, 74, 75, 76, 77, 78, 79, 80

## Beam Header M
designator BH?  value BSE-040-01-F-D-A  (hidden comment: *)
Farnell: 2581879
footprint BSE-040
pins: 1, 2, 3, 4, 5, 6, 7, 8, 9, 10, 11, 12, 13, 14, 15, 16, 17, 18, 19, 20, 21, 22, 23, 24, 25, 26, 27, 28, 29, 30, 31, 32, 33, 34, 35, 36, 37, 38, 39, 40, 41, 42, 43, 44, 45, 46, 47, 48, 49, 50, 51, 52, 53, 54, 55, 56, 57, 58, 59, 60, 61, 62, 63, 64, 65, 66, 67, 68, 69, 70, 71, 72, 73, 74, 75, 76, 77, 78, 79, 80

## BLDC_controller
designator U?  (value not drawn)
BLDC with controller. Pitch: 2.54 mm; Value: 1x8 Pin Header
footprint 1x10 Pin Header H (Diameter 2mm, Hole 1mm)
pins: 1 24V, 2 24V, 3 GND(24V), 4 GND(5V), 5 5V, 6 LOCK, 7 START/STOP, 8 CW/CCW, 9 BRAKE, 10 CLOCK

## BMX055
designator U?  (value not drawn)
footprint BMX055 (VFLGA - 4.5mm x 3mm)
pins: 1 INT2, 2 DRDYM, 3 VDD, 4 GNDA, 5 CSB2, 6 GNDIO, 7 PS, 8 NC, 9 SCx, 10 INT5, 11 SDx, 12 SDO2, 13 VDDIO, 14 INT3, 15 INT4, 16 CSB1, 17 SDO1, 18 NC, 19 INT1, 20 CSB3

## BMX055_module
designator U?  (value not drawn)
BMX055 Module
footprint BMX055_MODULE
pins: 1 VCC, 2 ACC INT2, 3 MAG DRDY, 4 GYRO ~{CS}, 5 SCK, 6 MAG INT, 7 GND, 8 VCCIO, 9 MOSI, 10 GYRO INT1, 11 ACC ~{CS}, 12 GYRO INT2, 13 MISO, 14 ACC INT1, 15 MAG ~{CS}

## BNO08X
designator U?  (value not drawn)
9-axis IMU
footprint LGA-28_2
pins: 1 RESV_NC, 2 GND, 3 VDD, 4 BOOTN, 5 PS1, 6 PS0/WAKE, 7 RESV_NC, 8 RESV_NC, 9 CAP, 10 CLKSEL0, 11 NRST, 12 RESV_NC, 13 RESV_NC, 14 H_INTN, 15 ENV_SCL, 16 ENV_SDA, 17 SA0/H_MOSI, 18 H_CSN, 19 H_SCL/SCK/RX, 20 H_SDA/H_MISO/TX, 21 RESV_NC, 22 RESV_NC, 23 RESV_NC, 24 RESV_NC, 25 GND, 26 XOUT32/CLKSEL1, 27 XIN32, 28 VDDIO

## BNO08X_breakout
designator U?  (value not drawn)
9-axis IMU
footprint bno08x_breakout
pins: 2 GND, 3 VDD, 4 BOOTN, 5 PS1, 6 PS0/WAKE, 9 CAP, 10 CLKSEL0, 11 NRST, 14 H_INTN, 15 ENV_SCL, 16 ENV_SDA, 17 SA0/H_MOSI, 18 H_CSN, 19 H_SCL/SCK/RX, 20 H_SDA/H_MISO/TX, 25 GND, 26 XOUT32/CLKSEL1, 27 XIN32, 28 VDDIO

## BNO055
designator U?  (value not drawn)
Accelerometer, gyroskop, magnetometer, 9 axis Sensor I²C, UART Output; Value: 9 axis IMU; Digikey: *
footprint BNO055
pins: 1 PIN1, 2 GND, 3 VDD, 4 ~{BOOT_LOAD_PIN}, 5 PS1, 6 PS0, 7 PIN7, 8 PIN8, 9 CAP, 10 BL_IND, 11 ~{RESET}, 12 PIN12, 13 PIN13, 14 INT, 15 PIN15, 16 PIN16, 17 COM3, 18 COM2, 19 COM1, 20 COM0, 21 PIN21, 22 PIN22, 23 PIN23, 24 PIN24, 25 GNDIO, 26 XOUT32, 27 XIN32, 28 VDDIO

## BSS138
designator Q?  (value not drawn)
N-Channel Logic Level Enhancement Mode Field Effect Transistor
footprint SOT323
pins: 1 G, 2 S, 3 D

## CA3080
designator U?
footprint DIP8
pins: 2 IN-, 3 IN+, 4 V- (power), 5 OS TRIM, 6 OUT, 7 V+ (power)

## CA3086
designator U?_
footprint DIP14
part A pins: 1, 2, 3
part B pins: 3, 4, 5
part C pins: 6, 7, 8
part D pins: 9, 10, 11
part E pins: 12, 13, 14

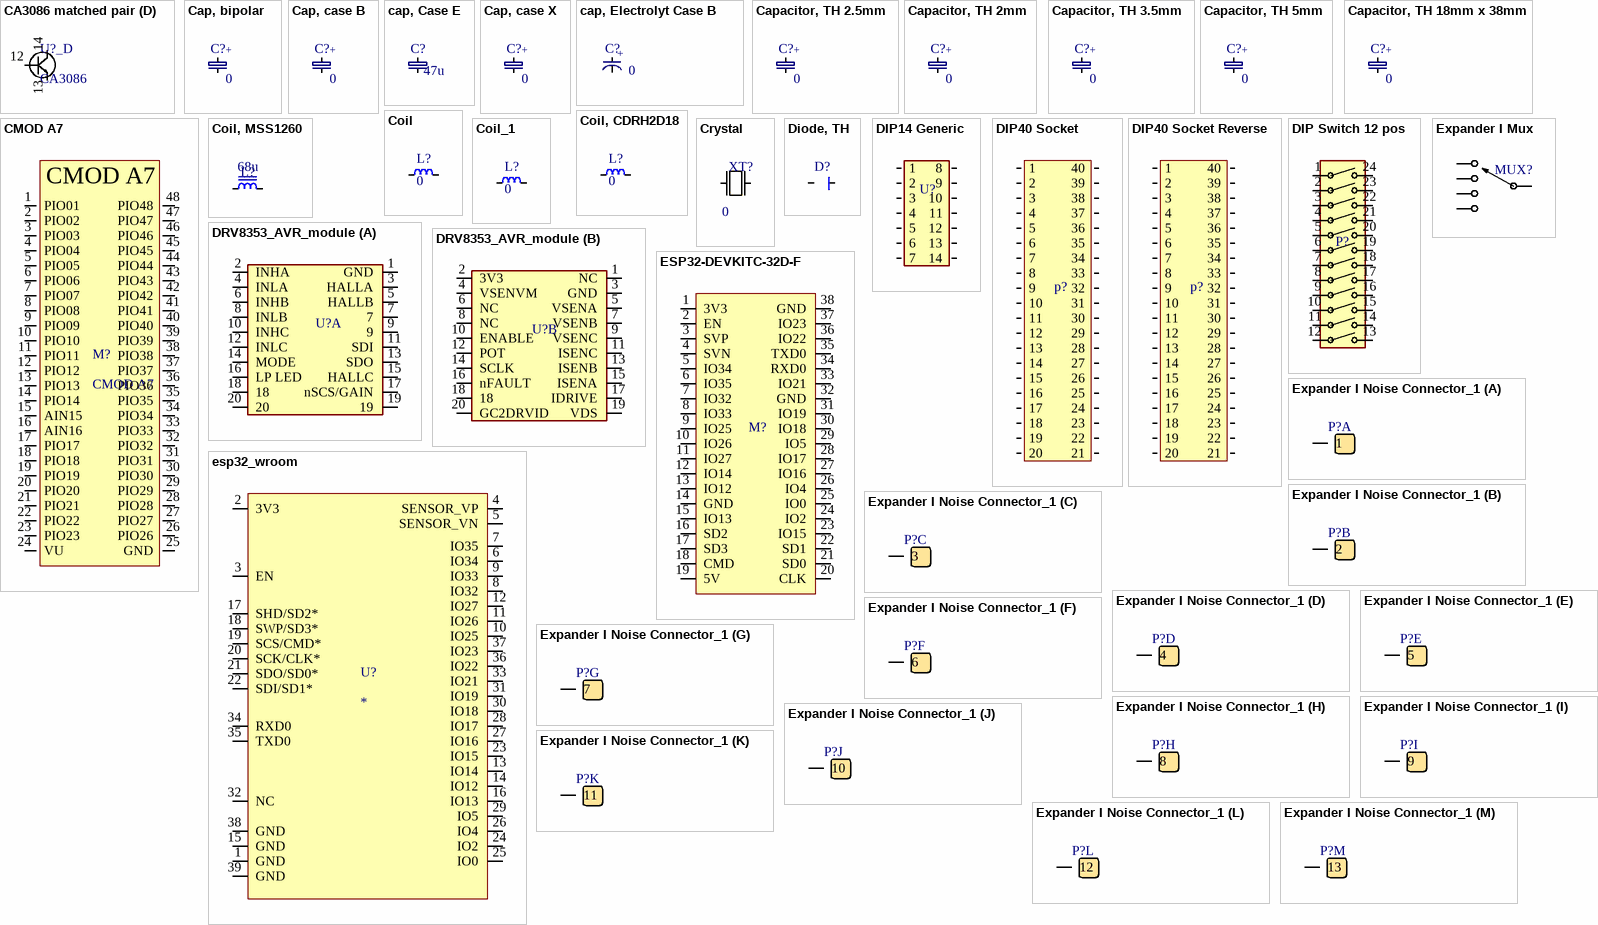
[diagram p3: symbols CA3086 matched pair to Expander I Noise Connector_1]

## CA3086 matched pair
designator U?_, comment CA3086
footprint DIP14
part A pins: 1, 2, 3, 4, 5
part B pins: 6, 7, 8
part C pins: 9, 10, 11
part D pins: 12, 13, 14

## Cap, bipolar
designator C?  value 0  (hidden comment: *)
footprint CASE_X
pins: 1, 2
text: +

## Cap, case B
designator C?  value 0  (hidden comment: *)
footprint CASE_B
pins: 1, 2
text: +

## cap, Case E
designator C?  value 47u  (hidden comment: *)
Tantalum; Farnell: 3018570RL
footprint CASE_E
pins: 1, 2

## Cap, case X
designator C?  value 0  (hidden comment: *)
footprint CASE_X
pins: 1, 2
text: +

## cap, Electrolyt Case B
designator C?  value 0  (hidden comment: *)
footprint EEEFT1E220AR
footprint EEE-FN1K220L
pins: 1, 2
text: +

## Capacitor, TH 2.5mm
designator C?  value 0  (hidden comment: *)
Capacitor TH 2.5mm pitch; Order number: 3335618; Supplier: Farnell
footprint TH, tant 2
pins: 1, 2
text: +

## Capacitor, TH 2mm
designator C?  value 0  (hidden comment: *)
Capacitor TH 3.5mm; Supplier: *; Order number: *
footprint capacitor, TH 2mm (Generic electrolyte)
pins: 1, 2
text: +

## Capacitor, TH 3.5mm
designator C?  value 0  (hidden comment: *)
Capacitor TH 3.5mm
footprint capacitor, TH 3.5mm (Generic electrolyte)
pins: 1, 2
text: +

## Capacitor, TH 5mm
designator C?  value 0  (hidden comment: *)
Capacitor TH 5mm; Supplier: *; Order number: *
footprint TH, tant
pins: 1, 2
text: +

## Capacitor, TH 18mm x 38mm
designator C?  value 0  (hidden comment: *)
Capacitor TH 18mm x 38mm
footprint cap, 18x38
pins: 1, 2
text: +

## CMOD A7
designator M?
Value: CMOD-A7, Artix-7 FPGA
footprint CMOD A7 (Cmod A7: Breadboardable Artix-7 FPGA Module)
pins: 1 PIO01, 2 PIO02, 3 PIO03, 4 PIO04, 5 PIO05, 6 PIO06, 7 PIO07, 8 PIO08, 9 PIO09, 10 PIO10, 11 PIO11, 12 PIO12, 13 PIO13, 14 PIO14, 15 AIN15, 16 AIN16, 17 PIO17, 18 PIO18, 19 PIO19, 20 PIO20, 21 PIO21, 22 PIO22, 23 PIO23, 24 VU, 25 GND, 26 PIO26, 27 PIO27, 28 PIO28, 29 PIO29, 30 PIO30, 31 PIO31, 32 PIO32, 33 PIO33, 34 PIO34, 35 PIO35, 36 PIO36, 37 PIO37, 38 PIO38, 39 PIO39, 40 PIO40, 41 PIO41, 42 PIO42, 43 PIO43, 44 PIO44, 45 PIO45, 46 PIO46, 47 PIO47, 48 PIO48

## Coil
designator L?  value 0  (hidden comment: *)
footprint 1812, coil
footprint 1210, Res
pins: 1, 2

## Coil, CDRH2D18
designator L?  value 0  (hidden comment: *)
FIXED IND 4.7UH 1.2A 140 MOHM; DigiKey: 308-2297-1-ND
footprint CDRH2D18 (FIXED IND 4.7UH 1.2A 140 MOHM)
pins: 1, 2

## Coil, MSS1260
designator L?  value 68u  (hidden comment: *)
68 µH, 2.3 A,; Farnell: 2288435
footprint MSS1260
pins: 1, 2

## Coil_1
designator L?  value 0  (hidden comment: *)
footprint 1812, coil
footprint 1210, Res
pins: 1, 2

## Crystal
designator XT?  value 0  (hidden comment: *)
footprint ECS-.327-12.5-39-TR (Crystal)
pins: 1, 2

## Diode, TH
designator D?  (value not drawn)
footprint TO-220-F2
pins: 1, 2

## DIP14 Generic
designator U?  (value not drawn)
footprint DIP14
pins: 1, 2, 3, 4, 5, 6, 7, 8, 9, 10, 11, 12, 13, 14

## DIP40 Socket
designator p?  (value not drawn)
Value: DIP40 Socket
footprint dip40_socket (Pitch - 2.54 mm x 15.24mm)
pins: 1, 2, 3, 4, 5, 6, 7, 8, 9, 10, 11, 12, 13, 14, 15, 16, 17, 18, 19, 20, 21, 22, 23, 24, 25, 26, 27, 28, 29, 30, 31, 32, 33, 34, 35, 36, 37, 38, 39, 40

## DIP40 Socket Reverse
designator p?  (value not drawn)
DIP40 Socket with pin header, mount on bottom layer, 2.54 mm pithc; Value: DIP40 Socket Reverse
footprint dip40_socket_special (Dip 40 socket and pin header, bottom layer mount, Pitch - 2.54 mm x 15.24mm)
pins: 1, 2, 3, 4, 5, 6, 7, 8, 9, 10, 11, 12, 13, 14, 15, 16, 17, 18, 19, 20, 21, 22, 23, 24, 25, 26, 27, 28, 29, 30, 31, 32, 33, 34, 35, 36, 37, 38, 39, 40

## DIP Switch 12 pos
designator P?  (value not drawn)
12  SWITCH SLIDE DIP SPST 25MA 24V; Value: DIP Switch; Supplier: *; Order Number: *
footprint dip_switch_12_pos
pins: 1, 2, 3, 4, 5, 6, 7, 8, 9, 10, 11, 12, 13, 14, 15, 16, 17, 18, 19, 20, 21, 22, 23, 24

## DRV8353_AVR_module
designator U?  (value not drawn)
footprint drv8353_evm
part A pins: 1 GND, 2 INHA, 3 HALLA, 4 INLA, 5 HALLB, 6 INHB, 7, 8 INLB, 9, 10 INHC, 11 SDI, 12 INLC, 13 SDO, 14 MODE, 15 HALLC, 16 LP LED, 17 nSCS/GAIN, 18, 19, 20
part B pins: 1 NC, 2 3V3, 3 GND, 4 VSENVM, 5 VSENA, 6 NC, 7 VSENB, 8 NC, 9 VSENC, 10 ENABLE, 11 ISENC, 12 POT, 13 ISENB, 14 SCLK, 15 ISENA, 16 nFAULT, 17 IDRIVE, 18, 19 VDS, 20 GC2DRVID

## ESP32-DEVKITC-32D-F
designator M?  (value not drawn)
footprint ESP32_DEVKITC
pins: 1 3V3, 2 EN, 3 SVP, 4 SVN, 5 IO34, 6 IO35, 7 IO32, 8 IO33, 9 IO25, 10 IO26, 11 IO27, 12 IO14, 13 IO12, 14 GND, 15 IO13, 16 SD2, 17 SD3, 18 CMD, 19 5V, 20 CLK, 21 SD0, 22 SD1, 23 IO15, 24 IO2, 25 IO0, 26 IO4, 27 IO16, 28 IO17, 29 IO5, 30 IO18, 31 IO19, 32 GND, 33 IO21, 34 RXD0, 35 TXD0, 36 IO22, 37 IO23, 38 GND

## esp32_wroom
designator U?
footprint esp32_wroom
pins: 1 GND, 2 3V3, 3 EN, 4 SENSOR_VP, 5 SENSOR_VN, 6 IO34, 7 IO35, 8 IO32, 9 IO33, 10 IO25, 11 IO26, 12 IO27, 13 IO14, 14 IO12, 15 GND, 16 IO13, 17 SHD/SD2*, 18 SWP/SD3*, 19 SCS/CMD*, 20 SCK/CLK*, 21 SDO/SD0*, 22 SDI/SD1*, 23 IO15, 24 IO2, 25 IO0, 26 IO4, 27 IO16, 28 IO17, 29 IO5, 30 IO18, 31 IO19, 32 NC, 33 IO21, 34 RXD0, 35 TXD0, 36 IO22, 37 IO23, 38 GND, 39 GND

## Expander I Mux
designator MUX?  (value not drawn)
footprint expander_mux
pins: 1, 2, 3, 4, 5

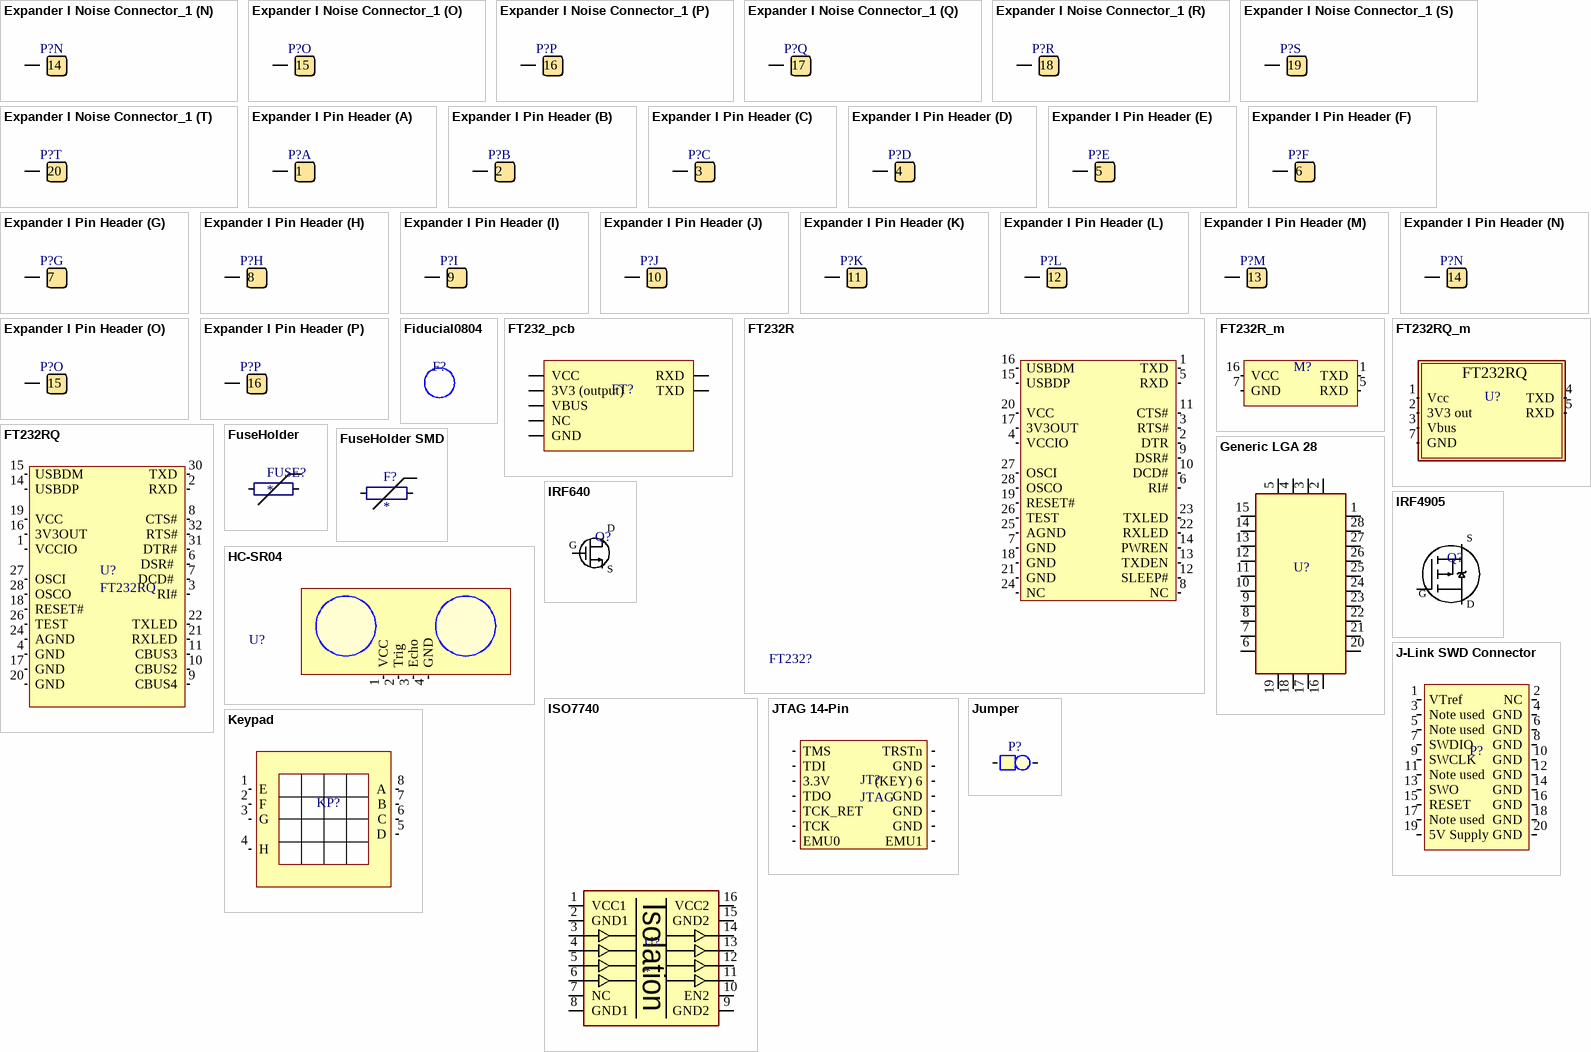
[diagram p4: symbols Expander I Noise Connector_1 to Keypad]

## Expander I Noise Connector_1
designator P?  (value not drawn)
Custom PCB to PCB connector
footprint Expander_pcb_con
part A pins: 1
part B pins: 2
part C pins: 3
part D pins: 4
part E pins: 5
part F pins: 6
part G pins: 7
part H pins: 8
part I pins: 9
part J pins: 10
part K pins: 11
part L pins: 12
part M pins: 13
part N pins: 14
part O pins: 15
part P pins: 16
part Q pins: 17
part R pins: 18
part S pins: 19
part T pins: 20

## Expander I Pin Header
designator P?  (value not drawn)
Custom PCB to PCB connector; vALUE: 16 P Connector
footprint dip16_empty
part A pins: 1
part B pins: 2
part C pins: 3
part D pins: 4
part E pins: 5
part F pins: 6
part G pins: 7
part H pins: 8
part I pins: 9
part J pins: 10
part K pins: 11
part L pins: 12
part M pins: 13
part N pins: 14
part O pins: 15
part P pins: 16

## Fiducial0804
designator F?  (value not drawn)
Fiducial hole 0.4 mm pad 0.8
footprint fiducial0804

## FT232_pcb
designator FT?  (value not drawn)
footprint ft2323_pcb
pins: 1 VCC, 2 3V3 (output), 3 VBUS, 4 TXD, 5 RXD, 6 NC, 7 GND

## FT232R
designator FT232?  (value not drawn)
USB UART IC; Value: FT232R; DigiKey: 768-1007-1-ND; Farnell: 1146032
footprint SOP28 (SOP, 28-Leads, Body 10,20x5,30mm, Pitch 0,65mm)
pins: 1 TXD, 2 DTR, 3 RTS#, 4 VCCIO, 5 RXD, 6 RI#, 7 GND, 8 NC, 9 DSR#, 10 DCD#, 11 CTS#, 12 SLEEP#, 13 TXDEN, 14 PWREN, 15 USBDP, 16 USBDM, 17 3V3OUT, 18 GND, 19 RESET#, 20 VCC, 21 GND, 22 RXLED, 23 TXLED, 24 NC, 25 AGND, 26 TEST, 27 OSCI, 28 OSCO

## FT232R_m
designator M?  (value not drawn)
FT232R module, see project for BOM; Value: FT232R module, see project for BOM
footprint FT232R_m
pins: 1 TXD, 5 RXD, 7 GND, 16 VCC

## FT232RQ
designator U?
FT232R USB UART IC, QFN; Value: FT232RQ; Farnell: 1146033
footprint QFN32_5X5 (QFN 32, 5X5 mm, 0.5 mm pitch)
pins: 1 VCCIO, 2 RXD, 3 RI#, 4 GND, 5 NC hidden, 6 DSR# , 7 DCD# , 8 CTS#, 9 CBUS4, 10 CBUS2, 11 CBUS3, 12 NC hidden, 13 NC hidden, 14 USBDP, 15 USBDM, 16 3V3OUT, 17 GND, 18 RESET#, 19 VCC, 20 GND, 21 RXLED, 22 TXLED, 23 NC hidden, 24 AGND, 25 NC hidden, 26 TEST, 27 OSCI, 28 OSCO, 29 NC hidden, 30 TXD, 31 DTR#, 32 RTS#

## FT232RQ_m
designator U?  (value not drawn)
Value: FT232RQ_m
footprint FT232RQ_M
pins: 1 Vcc, 2 3V3 out, 3 Vbus, 4 TXD, 5 RXD, 7 GND
text: FT232RQ

## FuseHolder
designator FUSE?
5x20 Fuse; Value: mA
footprint Fuse_holder (Fuse Holder)
pins: 1, 2

## FuseHolder SMD
designator F?
OMNI-BLOK Nano2 type fuses; Value: Rating
footprint OMNI-BLOK
pins: 1, 2

## Generic LGA 28
designator U?  (value not drawn)
footprint LGA-28_2
pins: 1, 2, 3, 4, 5, 6, 7, 8, 9, 10, 11, 12, 13, 14, 15, 16, 17, 18, 19, 20, 21, 22, 23, 24, 25, 26, 27, 28

## HC-SR04
designator U?  (value not drawn)
Ultra sonic transducer; Farnell: 2801408; Value: Ultra sonic transducer; Digikey: 1568-1421-ND
footprint HC-SR04
pins: 1 VCC, 2 Trig, 3 Echo, 4 GND

## IRF640
designator Q?  (value not drawn)
Value: N Channel MOSFET; Farnell: ETF! , 8648298
footprint TO-220
pins: 1 G, 2 D, 3 S

## IRF4905
designator Q?  (value not drawn)
P-Channel HEXFET® Power MOSFET
footprint d2pak
pins: 1 G, 2 D, 3 S

## ISO7740
designator U?
footprint SSOP-16
pins: 1 VCC1, 2 GND1, 3, 4, 5, 6, 7 NC, 8 GND1, 9 GND2, 10 EN2, 11, 12, 13, 14, 15 GND2, 16 VCC2
text: Isolation

## J-Link SWD Connector
designator P?  (value not drawn)
Segger J-Link SWD female connector
footprint J_LINK_20PIN_CON
footprint J_LINK_20PIN_CON_SMD (Female Pin header)
pins: 1 VTref, 2 NC, 3 Note used, 4 GND, 5 Note used, 6 GND, 7 SWDIO, 8 GND, 9 SWCLK, 10 GND, 11 Note used, 12 GND, 13 SWO, 14 GND, 15 RESET, 16 GND, 17 Note used, 18 GND, 19 5V Supply, 20 GND

## JTAG 14-Pin
designator JT?, comment JTAG
Texas Instrument JTAG, XDS100; Value: JTAG
footprint PINHEADER 2x7
footprint TI JTAG SMD (SMD, 2.54 mm pitch)
pins: 1 TMS, 2 TRSTn, 3 TDI, 4 GND, 5 3.3V, 6 (KEY) 6, 7 TDO, 8 GND, 9 TCK_RET, 10 GND, 11 TCK, 12 GND, 13 EMU0, 14 EMU1

## Jumper
designator P?  (value not drawn)
2.54 mm, TH; Value: 1x2 Pin Header
footprint padtwo_L (Pad Diameter 2 mm, Hole  0.3 mm, Pitch 2.54 mm)
footprint SMD_PAD (1x2 2.54 mm pitch)
footprint 1x2 Bent (Diameter 2mm, Hole 1mm)
pins: 1, 2

## Keypad
designator KP?  (value not drawn)
Value: Keypad
footprint KEYPAD (4 x 4 keypad)
pins: 1 E, 2 F, 3 G, 4 H, 5 D, 6 C, 7 B, 8 A

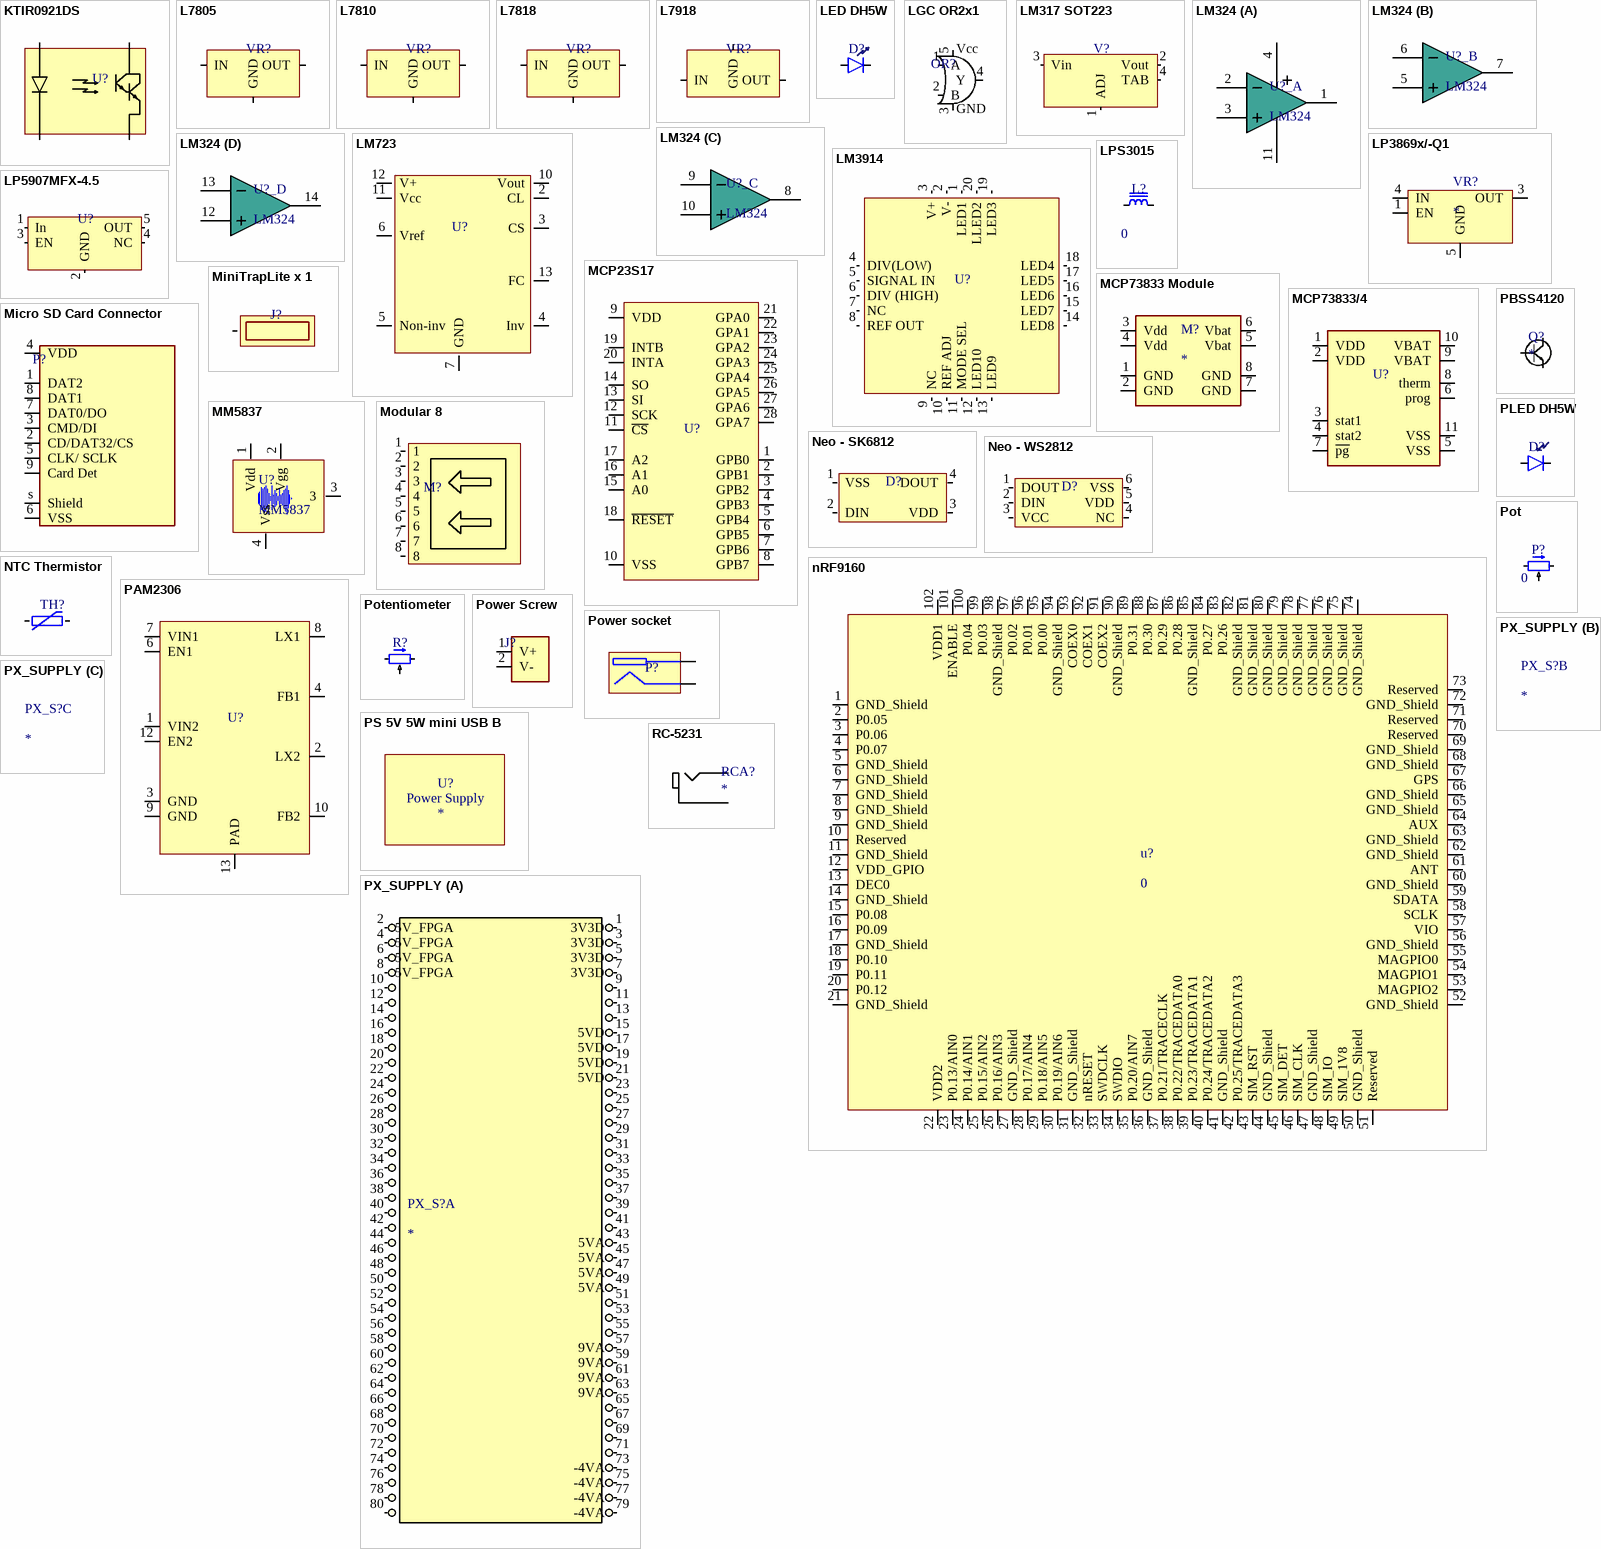
[diagram p5: symbols KTIR0921DS to RC-5231]

## KTIR0921DS
designator U?  (value not drawn)
Photo-Interrupter; ELFA: 175-40-134; Value: Photo-Interrupter
footprint KTIR0921DS
pins: 1, 2, 3, 4

## L7805
designator VR?  (value not drawn)
Value: L7805
footprint TO-220
pins: 1 IN, 2 GND, 3 OUT

## L7810
designator VR?  (value not drawn)
Positive voltage regulator; Value: L7818; Order number: 3122782; Supplier: Farnell
footprint TO-92 (Triangle, 2.54 mm)
pins: 1 OUT, 2 GND, 3 IN

## L7818
designator VR?  (value not drawn)
Positive voltage regulator; Value: L7818
footprint TO-220
pins: 1 IN, 2 GND, 3 OUT

## L7918
designator VR?  (value not drawn)
Negative voltage regulator; Value: L7918
footprint TO-220
pins: 1 GND, 2 IN, 3 OUT

## LED DH5W
designator D?  (value not drawn)
IR 950 nm, D = 5 mm; ELFA: LED: 300-16-671 // DH5W: 175-07-515; Value: LED
footprint LED_DH5W (LED in Shell, DH5W)
pins: 1, 2

## LGC OR2x1
designator OR?  (value not drawn)
Single 2-Input Positive-OR Gate; Value: Single 2-Input Positive-OR Gate; Farnell: 1287449
footprint SOT353/SC-70-5
pins: 1 A, 2 B, 3 GND, 4 Y, 5 Vcc

## LM317 SOT223
designator V?, comment LM317  (value not drawn)
Adjustable Voltage Regulator; Value: LM317; Farnell: 1469023
footprint SOT223 (SOT223, 4-Leads, Body 6,50x7,10mm (avg), Pitch 2,30mm, IPC Medium Density)
pins: 1 ADJ, 2 Vout, 3 Vin, 4 TAB

## LM324
designator U?_
Quad FET-Input Operational Amplifier
footprint DIP14
part A pins: 1 OUT1, 2 IN-, 3 IN+, 4 V+ (power), 11 V- (power)
part B pins: 5 IN+, 6 IN-, 7 OUT2
part C pins: 8 OUT3, 9 IN-, 10 IN+
part D pins: 12 IN+, 13 IN-, 14 OUT4

## LM723
designator U?  (value not drawn)
High precision voltage regulator; Value: Voltage regulator; Supplier: *; Order number: *
footprint DIP14
pins: 2 CL, 3 CS, 4 Inv, 5 Non-inv, 6 Vref, 7 GND, 10 Vout, 11 Vcc, 12 V+, 13 FC

## LM3914
designator U?  (value not drawn)
LM3914 Dot/Bar Display Driver; Value: Bar Driver
footprint PLCC20
pins: 1 LED1, 2 V-, 3 V+, 4 DIV(LOW), 5 SIGNAL IN, 6 DIV (HIGH), 7 NC, 8 REF OUT, 9 NC, 10 REF ADJ, 11 MODE SEL, 12 LED10, 13 LED9, 14 LED8, 15 LED7, 16 LED6, 17 LED5, 18 LED4, 19 LED3, 20 LLED2

## LP3869x/-Q1
designator VR?
500-mA Low-Dropout CMOS Linear Regulators / Stable With Ceramic Output Capacitors; Value: LDO; Order Number: LP38693MP-1.8/NOPBTR-ND; Supplier: Digikey
footprint SOT223_5
pins: 1 EN, 3 OUT, 4 IN, 5 GND

## LP5907MFX-4.5
designator U?  (value not drawn)
LDO, 220mV dropout, 4.5V output, Vin < 5.5V; Value: LDO; Farnell: 2492305
footprint SOT23-5 (SOT23, 5-Leads, Body 2,90x2,80mm, Pitch 0,95mm, IPC Medium Density)
pins: 1 In, 2 GND, 3 EN, 4 NC, 5 OUT

## LPS3015
designator L?  value 0  (hidden comment: LPS3015)
Shielded Power Inductor; Farnell: 2408020
footprint LPS3015-222 (Shielded Power Inductor)
pins: 1, 2

## MCP23S17
designator U?  (value not drawn)
16-Bit I/O Expander with Serial Interface; Value: 16-Bit I/O Expander; Digikey: MCP23S17-E/SP-ND
footprint DIP28
pins: 1 GPB0, 2 GPB1, 3 GPB2, 4 GPB3, 5 GPB4, 6 GPB5, 7 GPB6, 8 GPB7, 9 VDD, 10 VSS, 11 ~{CS}, 12 SCK, 13 SI, 14 SO, 15 A0, 16 A1, 17 A2, 18 ~{RESET}, 19 INTB, 20 INTA, 21 GPA0, 22 GPA1, 23 GPA2, 24 GPA3, 25 GPA4, 26 GPA5, 27 GPA6, 28 GPA7

## MCP73833 Module
designator M?
footprint MCP73833_module
pins: 1 GND, 2 GND, 3 Vdd, 4 Vdd, 5 Vbat, 6 Vbat, 7 GND, 8 GND

## MCP73833/4
designator U?  (value not drawn)
Stand-Alone Linear Li-Ion / Li-Polymer Charge / Management Controller; Supplier: *; Order number: *
footprint DFN10 (3mm x 3mm, 0.5 mm pitch)
footprint DFN10_MCP73833_breakout
pins: 1 VDD, 2 VDD, 3 stat1, 4 stat2, 5 VSS, 6 prog, 7 ~{pg}, 8 therm, 9 VBAT, 10 VBAT, 11 VSS

## Micro SD Card Connector
designator P?  (value not drawn)
Order number: WM11190CT-ND; Value: *; Supplier: Digikey
footprint sd_card_molex
pins: 1 DAT2, 2 CD/DAT32/CS, 3 CMD/DI, 4 VDD, 5 CLK/ SCLK, 6 VSS, 7 DAT0/DO, 8 DAT1, 9 Card Det, s Shield

## MiniTrapLite x 1
designator J?
Single Cable-To-PCB Connector; Value: Cable-To-PCB Connector; Farnell: 2500018
footprint Mini_Lite_Trap_x_1 (Single Cable-to-PCB  Connector)
pins: 1

## MM5837
designator U?
Digital Noise Source
footprint DIP8
pins: 1 Vdd, 2 Vgg, 3, 4 Vss

## Modular 8
designator M?  (value not drawn)
Value: Modular Jack, 8 p; ELFA: 142-57-072
footprint Modular8
pins: 1, 2, 3, 4, 5, 6, 7, 8

## Neo - SK6812
designator D?  (value not drawn)
Value: LED - Neopixel; DigiKey: 1528-1104-ND
footprint NEOPIXEL2
pins: 1 VSS, 2 DIN, 3 VDD, 4 DOUT

## Neo - WS2812
designator D?  (value not drawn)
Value: WS2812; DigiKey: 1568-1800-ND
footprint NEOPIXEL
pins: 1 DOUT, 2 DIN, 3 VCC, 4 NC, 5 VDD, 6 VSS

## nRF9160
designator u?, comment 0
footprint nrf9160
pins: 1 GND_Shield, 2 P0.05, 3 P0.06, 4 P0.07, 5 GND_Shield, 6 GND_Shield, 7 GND_Shield, 8 GND_Shield, 9 GND_Shield, 10 Reserved, 11 GND_Shield, 12 VDD_GPIO, 13 DEC0, 14 GND_Shield, 15 P0.08, 16 P0.09, 17 GND_Shield, 18 P0.10, 19 P0.11, 20 P0.12, 21 GND_Shield, 22 VDD2, 23 P0.13/AIN0, 24 P0.14/AIN1, 25 P0.15/AIN2, 26 P0.16/AIN3, 27 GND_Shield, 28 P0.17/AIN4, 29 P0.18/AIN5, 30 P0.19/AIN6, 31 GND_Shield, 32 nRESET, 33 SWDCLK, 34 SWDIO, 35 P0.20/AIN7, 36 GND_Shield, 37 P0.21/TRACECLK, 38 P0.22/TRACEDATA0, 39 P0.23/TRACEDATA1, 40 P0.24/TRACEDATA2, 41 GND_Shield, 42 P0.25/TRACEDATA3, 43 SIM_RST, 44 GND_Shield, 45 SIM_DET, 46 SIM_CLK, 47 GND_Shield, 48 SIM_IO, 49 SIM_1V8, 50 GND_Shield, 51 Reserved, 52 GND_Shield, 53 MAGPIO2, 54 MAGPIO1, 55 MAGPIO0, 56 GND_Shield, 57 VIO, 58 SCLK, 59 SDATA, 60 GND_Shield, 61 ANT, 62 GND_Shield, 63 GND_Shield, 64 AUX, 65 GND_Shield, 66 GND_Shield, 67 GPS, 68 GND_Shield, 69 GND_Shield, 70 Reserved, 71 Reserved, 72 GND_Shield, 73 Reserved, 74 GND_Shield, 75 GND_Shield, 76 GND_Shield, 77 GND_Shield, 78 GND_Shield, 79 GND_Shield, 80 GND_Shield, 81 GND_Shield, 82 GND_Shield, 83 P0.26, 84 P0.27, 85 GND_Shield, 86 P0.28, 87 P0.29, 88 P0.30, 89 P0.31, 90 GND_Shield, 91 COEX2, 92 COEX1, 93 COEX0, 94 GND_Shield, 95 P0.00, 96 P0.01, 97 P0.02, 98 GND_Shield, 99 P0.03, 100 P0.04, 101 ENABLE, 102 VDD1

## NTC Thermistor
designator TH?  (value not drawn)
Value: NTC; Supplier: *; Order number: *
footprint NTC Thermistor
pins: 1, 2

## PAM2306
designator U?  (value not drawn)
DUAL HIGH-EFFICIENCY PWM STEP-DOWN DC-DC CONVERTER; Digikey: PAM2306AYPKEDICT-ND
footprint WDFN_12
pins: 1 VIN2, 2 LX2, 3 GND, 4 FB1, 6 EN1, 7 VIN1, 8 LX1, 9 GND, 10 FB2, 12 EN2, 13 PAD

## PBSS4120
designator Q?
NPN-transistor; Value: PBSS4120
footprint SOT-23
pins: 1 B, 2 E, 3 C

## PLED DH5W
designator D?  (value not drawn)
Photo IR diode, 900 nm, D = 5 mm; ELFA: LED: 175-22-030 // DH5W: 175-07-515; Value: LED
footprint LED_DH5W (LED in Shell, DH5W)
pins: 1, 2

## Pot
designator P?  value 0  (hidden comment: *)
footprint POT_TH1 (270 Degree)
footprint TRIM_POT
footprint TRIM_POT2
pins: 1, 2, 3

## Potentiometer
designator R?  (value not drawn)
Potentiometer; Value: 0; ELFA: 300-08-353
footprint P110KH1 (Potentiometer)
pins: 1, 2, 3

## Power Screw
designator J?  (value not drawn)
footprint Power_screw
pins: 1 V+, 2 V-

## Power socket
designator P?  (value not drawn)
footprint DC_PLUG
pins: 1, 2

## PS 5V 5W mini USB B
designator U?
Value: Power Supply 5V 5W mini USB; Farnell: 2451856
text: Power Supply

## PX_SUPPLY
designator PX_S?
Value: BTE-040-01-F-D-A; Farnell: 2581980
footprint PX_Supply
part A pins: 1 3V3D, 2 5V_FPGA, 3 3V3D, 4 5V_FPGA, 5 3V3D, 6 5V_FPGA, 7 3V3D, 8 5V_FPGA, 9, 10, 11, 12, 13, 14, 15 5VD, 16, 17 5VD, 18, 19 5VD, 20, 21 5VD, 22, 23, 24, 25, 26, 27, 28, 29, 30, 31, 32, 33, 34, 35, 36, 37, 38, 39, 40, 41, 42, 43 5VA, 44, 45 5VA, 46, 47 5VA, 48, 49 5VA, 50, 51, 52, 53, 54, 55, 56, 57 9VA, 58, 59 9VA, 60, 61 9VA, 62, 63 9VA, 64, 65, 66, 67, 68, 69, 70, 71, 72, 73 -4VA, 74, 75 -4VA, 76, 77 -4VA, 78, 79 -4VA, 80

## RC-5231
designator RCA?
RCA Female; Value: RCA Female; Farnell: 2472275
footprint RC-5231 (RCA Female Connector)
pins: 1, 2

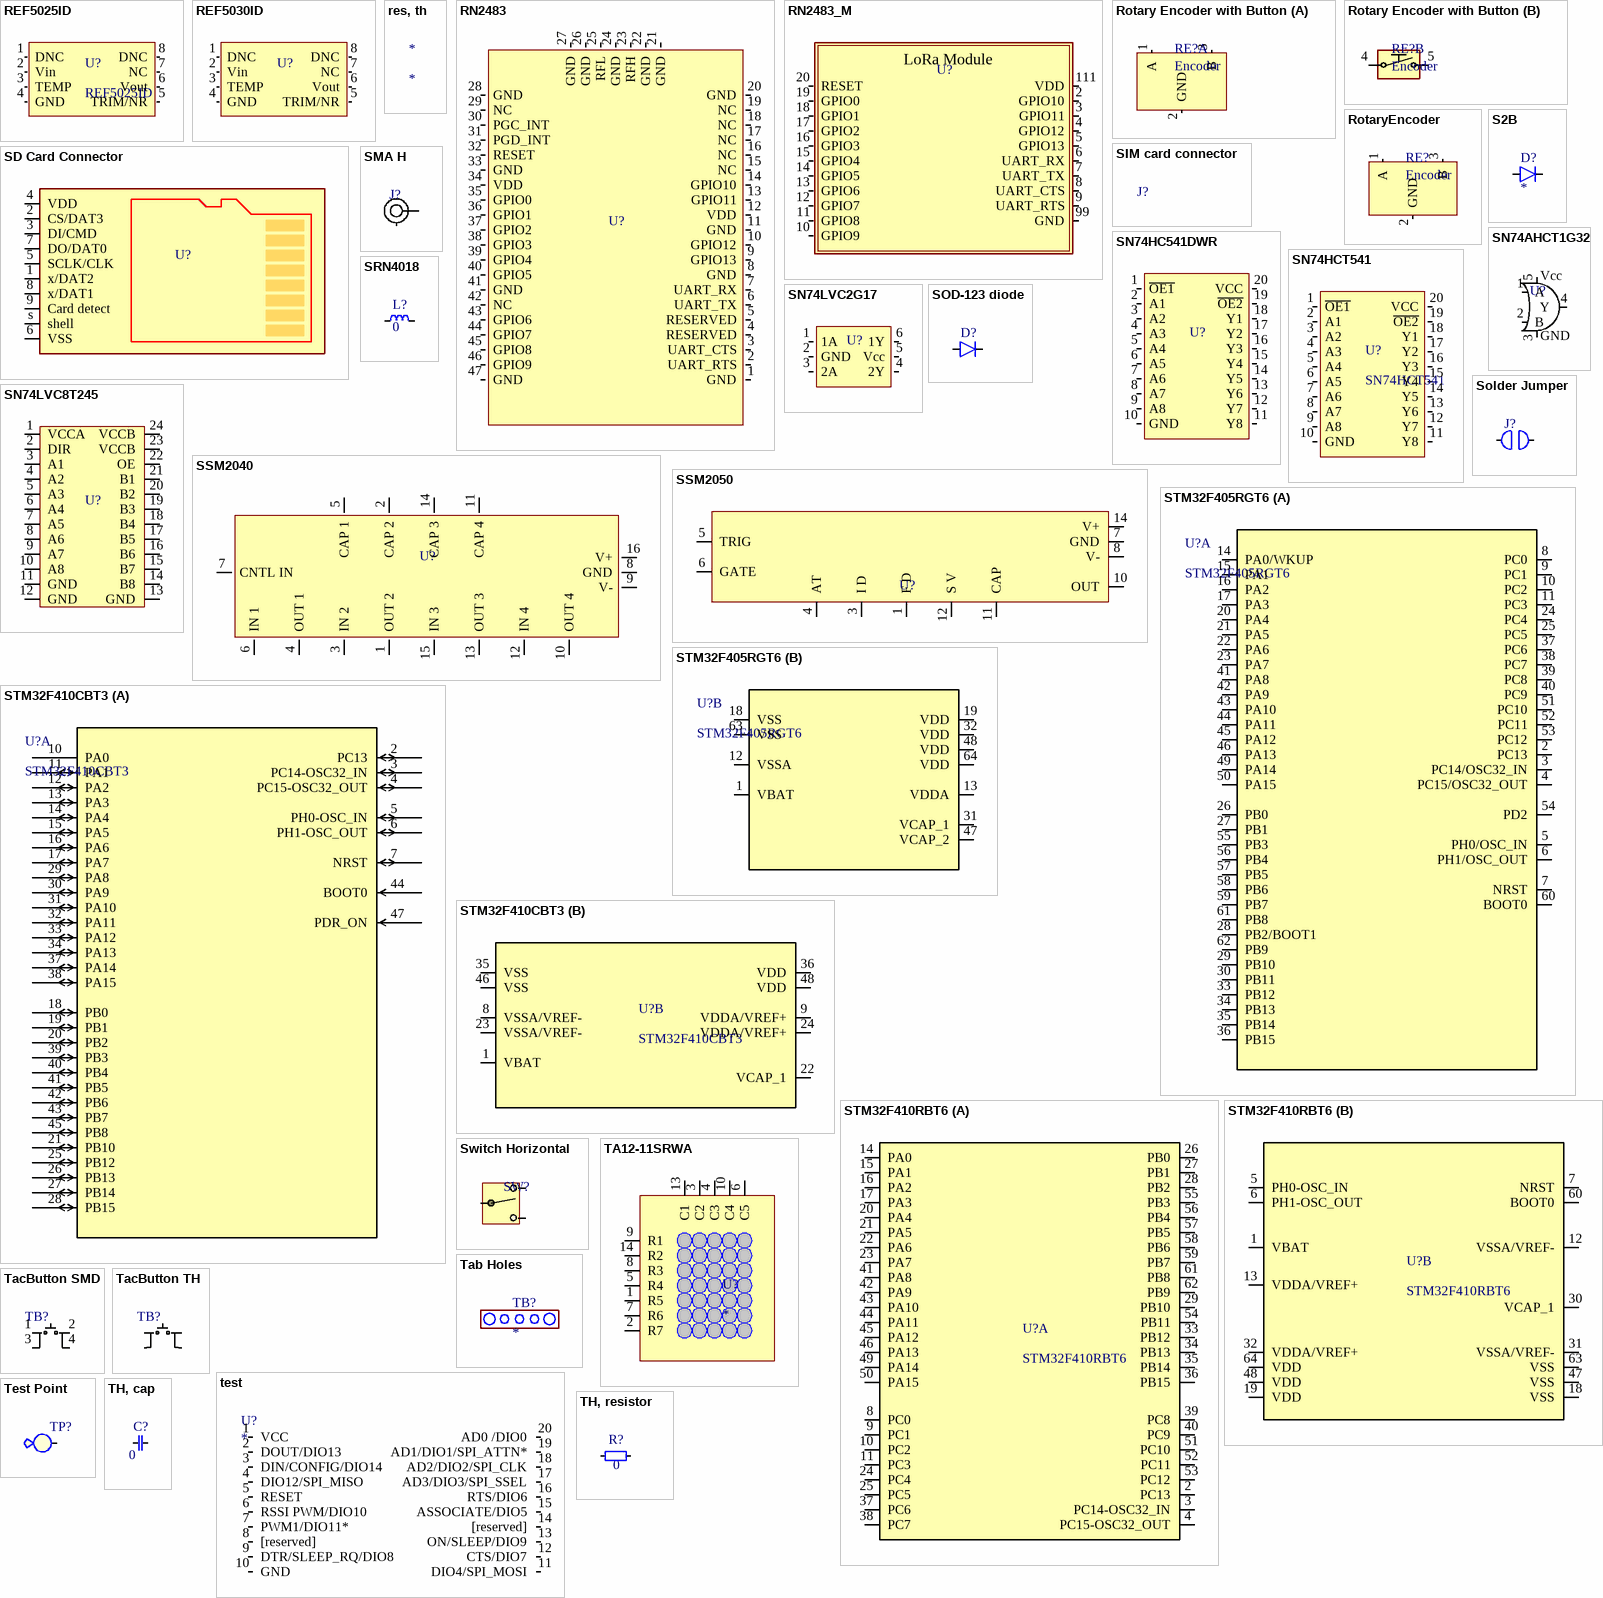
[diagram p6: symbols REF5025ID to TH, resistor]

## REF5025ID
designator U?
Value: REF5025ID; Farnell: 1702829
footprint SOIC8 (SOIC, 8-Leads, Body 4,90x3,90mm, Pitch 1,27mm, IPC Medium Density)
pins: 1 DNC, 2 Vin, 3 TEMP, 4 GND, 5 TRIM/NR, 6 Vout, 7 NC, 8 DNC

## REF5030ID
designator U?, comment REF5030AID  (value not drawn)
Value: REF5030ID - Volatage ref; Farnell: 1702829
footprint SOIC8 (SOIC, 8-Leads, Body 4,90x3,90mm, Pitch 1,27mm, IPC Medium Density)
pins: 1 DNC, 2 Vin, 3 TEMP, 4 GND, 5 TRIM/NR, 6 Vout, 7 NC, 8 DNC

## res, th
designator *

## RN2483
designator U?  (value not drawn)
Microchip LoRa Module; Value: RN2483, Lora Module; Farnell: 2758492
footprint RN2483 (Lora Module)
pins: 1 GND, 2 UART_RTS, 3 UART_CTS, 4 RESERVED, 5 RESERVED, 6 UART_TX, 7 UART_RX, 8 GND, 9 GPIO13, 10 GPIO12, 11 GND, 12 VDD, 13 GPIO11, 14 GPIO10, 15 NC, 16 NC, 17 NC, 18 NC, 19 NC, 20 GND, 21 GND, 22 GND, 23 RFH, 24 GND, 25 RFL, 26 GND, 27 GND, 28 GND, 29 NC, 30 PGC_INT, 31 PGD_INT, 32 RESET, 33 GND, 34 VDD, 35 GPIO0, 36 GPIO1, 37 GPIO2, 38 GPIO3, 39 GPIO4, 40 GPIO5, 41 GND, 42 NC, 43 GPIO6, 44 GPIO7, 45 GPIO8, 46 GPIO9, 47 GND

## RN2483_M
designator U?  (value not drawn)
Microchip LoRa Module; Value: RN2483, Lora Module; Farnell: 1099539 x 3
footprint RN2483_m
pins: 2 GPIO10, 3 GPIO11, 4 GPIO12, 5 GPIO13, 6 UART_RX, 7 UART_TX, 8 UART_CTS, 9 UART_RTS, 10 GPIO9, 11 GPIO8, 12 GPIO7, 13 GPIO6, 14 GPIO5, 15 GPIO4, 16 GPIO3, 17 GPIO2, 18 GPIO1, 19 GPIO0, 20 RESET, 99 GND, 111 VDD
text: LoRa Module

## Rotary Encoder with Button
designator RE?, comment Encoder
footprint RotaryEncoder
part A pins: 1 A, 2 GND, 3 B
part B pins: 4 B, 5 B

## RotaryEncoder
designator RE?, comment Encoder
footprint RotaryEncoder
pins: 1 A, 2 GND, 3 B

## S2B
designator D?
Value: Diode; Farnell: 1700794
footprint DO-214AA
pins: 1, 2

## SD Card Connector
designator U?
SD card connector
footprint sd_card_molex
pins: 1 x/DAT2, 2 CS/DAT3, 3 DI/CMD, 4 VDD, 5 SCLK/CLK, 6 VSS, 7 DO/DAT0, 8 x/DAT1, 9 Card detect, s shell

## SIM card connector
designator J?  (value not drawn)
SF72S006VBAR2500

## SMA H
designator J?  (value not drawn)
footprint SMA_H (End Launch Jack)
footprint SMA TH V (Vertical SMA square)
footprint SMA TH (Vertical SMA square)
footprint SMA TH 2 (Vertical SMA square)
pins: 1, 2

## SN74AHCT1G32
designator U?  (value not drawn)
SN74AHCT1G32 Single 2-Input Positive-OR Gate; Value: OR gate, single; Farnell: 1105926
footprint SOT23-5 (SOT23, 5-Leads, Body 2,90x2,80mm, Pitch 0,95mm, IPC Medium Density)
pins: 1 A, 2 B, 3 GND, 4 Y, 5 Vcc

## SN74HC541DWR
designator U?  (value not drawn)
2V min, Octal buffers and line drivers with 3-state output; Value: Buffer/Driver; Farnell: 1607638
footprint SOIC20
pins: 1 ~{OE1}, 2 A1, 3 A2, 4 A3, 5 A4, 6 A5, 7 A6, 8 A7, 9 A8, 10 GND, 11 Y8, 12 Y7, 13 Y6, 14 Y5, 15 Y4, 16 Y3, 17 Y2, 18 Y1, 19 ~{OE2}, 20 VCC

## SN74HCT541
designator U?
Octal buffers and line drivers with 3-state output; Value: Buffer/Driver; ELFA: 300-23-116
footprint SOIC20
pins: 1 ~{OE1}, 2 A1, 3 A2, 4 A3, 5 A4, 6 A5, 7 A6, 8 A7, 9 A8, 10 GND, 11 Y8, 12 Y7, 13 Y6, 14 Y5, 15 Y4, 16 Y3, 17 Y2, 18 Y1, 19 ~{OE2}, 20 VCC

## SN74LVC2G17
designator U?  (value not drawn)
Dual Schmitt-Trigger Buffer; Value: Schmitt-trigger Buffer; ELFA: 300-23-213; Farnell: 1470776
footprint SC-70-6
pins: 1 1A, 2 GND, 3 2A, 4 2Y, 5 Vcc, 6 1Y

## SN74LVC8T245
designator U?  (value not drawn)
8-Bit Dual-Supply Bus Transceiver With / Configurable Voltage Translation and 3-State Outputs; Value: 8-bit Dual-Supply Bus Transceiver; Farnell: 3006799
footprint SOIC24
pins: 1 VCCA, 2 DIR, 3 A1, 4 A2, 5 A3, 6 A4, 7 A5, 8 A6, 9 A7, 10 A8, 11 GND, 12 GND, 13 GND, 14 B8, 15 B7, 16 B6, 17 B5, 18 B4, 19 B3, 20 B2, 21 B1, 22 OE, 23 VCCB, 24 VCCB

## SOD-123 diode
designator D?  (value not drawn)
Value: Diode
footprint SOD123
pins: 1 C, 2 A

## Solder Jumper
designator J?  (value not drawn)
Solder Jumper; Value: Solder Jumper
footprint SOLDER_JUMPER
pins: 1, 2

## SRN4018
designator L?  value 0  (hidden comment: *)
footprint SRN4018
pins: 1, 2

## SSM2040
designator U?  (value not drawn)
Voltage controlled filter; Value: VCF; Supplier: *; Order number: *
footprint dip16
pins: 1 OUT 2, 2 CAP 2, 3 IN 2, 4 OUT 1, 5 CAP 1, 6 IN 1, 7 CNTL IN, 8 GND, 9 V-, 10 OUT 4, 11 CAP 4, 12 IN 4, 13 OUT 3, 14 CAP 3, 15 IN 3, 16 V+

## SSM2050
designator U?  (value not drawn)
Voltage controlled transient generator; Value: VCTG; Supplier: *; Order number: *
footprint DIP14
pins: 1 F D, 3 I D, 4 AT, 5 TRIG, 6 GATE, 7 GND, 8 V-, 10 OUT, 11 CAP, 12 S V, 14 V+

## STM32F405RGT6
designator U?
No Description Available; Vendor: STMicroelectronics; Built_By: EMA_UL_Team; SourceLibrary: Updates_to_database_2020-10-19; Manufacturer_Part_Number: STM32F405RGT6; Copyright: Copyright (C) 2018 Accelerated Designs. All rights reserved; RefDes: RefDes; Type: DEV
footprint LQFP64-10x10mm
footprint LQFP64-10x10mm_s
part A pins: 2 PC13, 3 PC14/OSC32_IN, 4 PC15/OSC32_OUT, 5 PH0/OSC_IN, 6 PH1/OSC_OUT, 7 NRST, 8 PC0, 9 PC1, 10 PC2, 11 PC3, 14 PA0/WKUP, 15 PA1, 16 PA2, 17 PA3, 20 PA4, 21 PA5, 22 PA6, 23 PA7, 24 PC4, 25 PC5, 26 PB0, 27 PB1, 28 PB2/BOOT1, 29 PB10, 30 PB11, 33 PB12, 34 PB13, 35 PB14, 36 PB15, 37 PC6, 38 PC7, 39 PC8, 40 PC9, 41 PA8, 42 PA9, 43 PA10, 44 PA11, 45 PA12, 46 PA13, 49 PA14, 50 PA15, 51 PC10, 52 PC11, 53 PC12, 54 PD2, 55 PB3, 56 PB4, 57 PB5, 58 PB6, 59 PB7, 60 BOOT0, 61 PB8, 62 PB9
part B pins: 1 VBAT (power), 12 VSSA (power), 13 VDDA (power), 18 VSS (power), 19 VDD (power), 31 VCAP_1 (power), 32 VDD (power), 47 VCAP_2 (power), 48 VDD (power), 63 VSS (power), 64 VDD (power)